# Altium integrated library Xilinx Virtex.IntLib: 240 symbols (part 2 of 35)
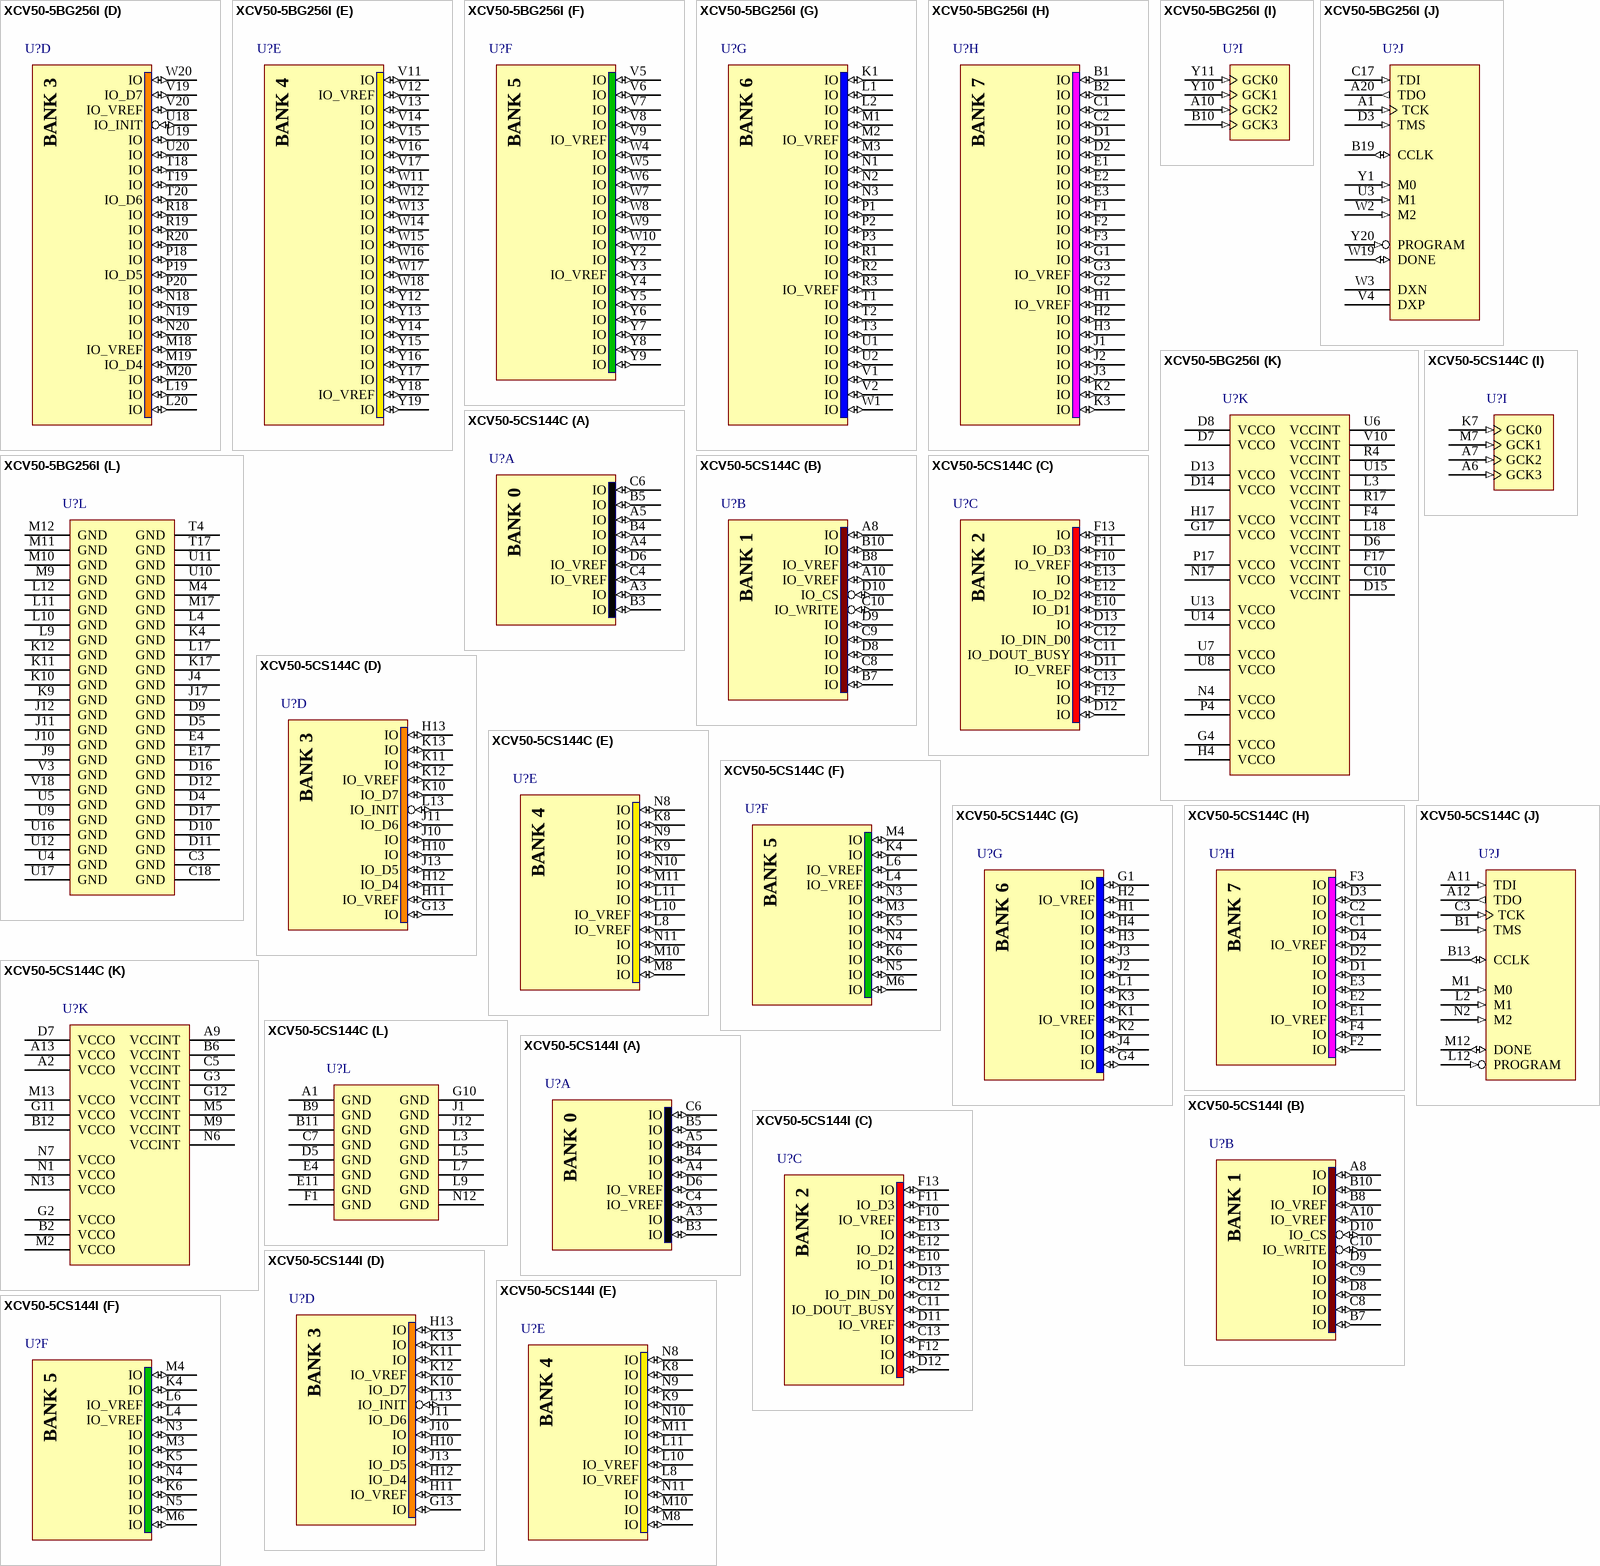
[diagram p213: symbols XCV50-5BG256I to XCV50-5CS144I]

## XCV50-5BG256I
designator U?
Virtex 2.5V FPGA, 256-Ball Thermally Enhanced BGA, Industrial Grade; Note: Solder pads are defined by the copper, i.e. non-soldermask defined (NSMD); 16 extra balls (grounded) at package center; Published: 19-Sep-2001; LatestRevisionDate: 13-Apr-2006; LatestRevisionNote: IPC-7351 Footprint Added.; DatasheetVersion: Dec-2002; PackageVersion: ver1.1, Apr-2001; PackageReference: BG256TE; Publisher: Altium Limited; PackageDescription: 256-Ball Plastic Ball Grid Array (BG256) - Thermally Enhanced; Code_JEDEC: MS-034-BAL-2; ComponentLink1Description: Manufacturer Link; ComponentLink1URL: http://www.xilinx.com/xlnx/xil_prodcat_product.jsp?title=ss_vir; ComponentLink2Description: Datasheet; ComponentLink2URL: http://direct.xilinx.com/bvdocs/publications/ds003.pdf
footprint BG256TE (BGA, 272-Leads, Body 27x27mm, Pitch 1.27mm)
3D model XCV50-BG256TE (256-Ball Plastic Ball Grid Array (BG256) - Thermally Enhanced)
signal-integrity model XCV50_BG256 (Virtex)
part A pins: A2 IO (io), A3 IO (io), A4 IO (io), A5 IO (io), A6 IO (io), A7 IO (io), A8 IO_VREF (io), A9 IO (io), B3 IO (io), B4 IO_VREF (io), B5 IO (io), B6 IO (io), B7 IO (io), B8 IO (io), B9 IO (io), C4 IO (io), C5 IO (io), C6 IO (io), C7 IO (io), C8 IO (io), C9 IO (io)
part B pins: A11 IO (io), A12 IO (io), A13 IO (io), A14 IO (io), A15 IO (io), A16 IO (io), A17 IO_VREF (io), A18 IO (io), A19 IO_WRITE (io), B11 IO (io), B12 IO_VREF (io), B13 IO (io), B14 IO (io), B15 IO (io), B16 IO (io), B17 IO (io), B18 IO_CS (io), C11 IO (io), C12 IO (io), C13 IO (io), C14 IO (io), C15 IO (io), C16 IO (io)
part C pins: B20 IO (io), C19 IO_DIN_D0 (io), C20 IO_VREF (io), D18 IO_DOUT_BUSY (io), D19 IO (io), D20 IO (io), E18 IO (io), E19 IO (io), E20 IO_D1 (io), F18 IO (io), F19 IO (io), F20 IO (io), G18 IO (io), G19 IO_D2 (io), G20 IO (io), H18 IO (io), H19 IO (io), H20 IO (io), J18 IO_VREF (io), J19 IO_D3 (io), J20 IO (io), K18 IO (io), K19 IO (io), K20 IO (io)
part D pins: L19 IO (io), L20 IO (io), M18 IO_VREF (io), M19 IO_D4 (io), M20 IO (io), N18 IO (io), N19 IO (io), N20 IO (io), P18 IO (io), P19 IO_D5 (io), P20 IO (io), R18 IO (io), R19 IO (io), R20 IO (io), T18 IO (io), T19 IO (io), T20 IO_D6 (io), U18 IO_INIT (io), U19 IO (io), U20 IO (io), V19 IO_D7 (io), V20 IO_VREF (io), W20 IO (io)
part E pins: V11 IO (io), V12 IO_VREF (io), V13 IO (io), V14 IO (io), V15 IO (io), V16 IO (io), V17 IO (io), W11 IO (io), W12 IO (io), W13 IO (io), W14 IO (io), W15 IO (io), W16 IO (io), W17 IO (io), W18 IO (io), Y12 IO (io), Y13 IO (io), Y14 IO (io), Y15 IO (io), Y16 IO (io), Y17 IO (io), Y18 IO_VREF (io), Y19 IO (io)
part F pins: V5 IO (io), V6 IO (io), V7 IO (io), V8 IO (io), V9 IO_VREF (io), W4 IO (io), W5 IO (io), W6 IO (io), W7 IO (io), W8 IO (io), W9 IO (io), W10 IO (io), Y2 IO (io), Y3 IO_VREF (io), Y4 IO (io), Y5 IO (io), Y6 IO (io), Y7 IO (io), Y8 IO (io), Y9 IO (io)
part G pins: K1 IO (io), L1 IO (io), L2 IO (io), M1 IO (io), M2 IO_VREF (io), M3 IO (io), N1 IO (io), N2 IO (io), N3 IO (io), P1 IO (io), P2 IO (io), P3 IO (io), R1 IO (io), R2 IO (io), R3 IO_VREF (io), T1 IO (io), T2 IO (io), T3 IO (io), U1 IO (io), U2 IO (io), V1 IO (io), V2 IO (io), W1 IO (io)
part H pins: B1 IO (io), B2 IO (io), C1 IO (io), C2 IO (io), D1 IO (io), D2 IO (io), E1 IO (io), E2 IO (io), E3 IO (io), F1 IO (io), F2 IO (io), F3 IO (io), G1 IO (io), G2 IO (io), G3 IO_VREF (io), H1 IO_VREF (io), H2 IO (io), H3 IO (io), J1 IO (io), J2 IO (io), J3 IO (io), K2 IO (io), K3 IO (io)
part I pins: A10 GCK2 (in), B10 GCK3 (in), Y10 GCK1 (in), Y11 GCK0 (in)
part J pins: A1 TCK (in), A20 TDO (out), B19 CCLK (io), C17 TDI (in), D3 TMS (in), U3 M1 (in), V4 DXP, W2 M2 (in), W3 DXN, W19 DONE (io), Y1 M0 (in), Y20 PROGRAM (in)
part K pins: C10 VCCINT (power), D6 VCCINT (power), D7 VCCO (power), D8 VCCO (power), D13 VCCO (power), D14 VCCO (power), D15 VCCINT (power), F4 VCCINT (power), F17 VCCINT (power), G4 VCCO (power), G17 VCCO (power), H4 VCCO (power), H17 VCCO (power), L3 VCCINT (power), L18 VCCINT (power), N4 VCCO (power), N17 VCCO (power), P4 VCCO (power), P17 VCCO (power), R4 VCCINT (power), R17 VCCINT (power), U6 VCCINT (power), U7 VCCO (power), U8 VCCO (power), U13 VCCO (power), U14 VCCO (power), U15 VCCINT (power), V10 VCCINT (power)
part L pins: C3 GND (power), C18 GND (power), D4 GND (power), D5 GND (power), D9 GND (power), D10 GND (power), D11 GND (power), D12 GND (power), D16 GND (power), D17 GND (power), E4 GND (power), E17 GND (power), J4 GND (power), J9 GND (power), J10 GND (power), J11 GND (power), J12 GND (power), J17 GND (power), K4 GND (power), K9 GND (power), K10 GND (power), K11 GND (power), K12 GND (power), K17 GND (power), L4 GND (power), L9 GND (power), L10 GND (power), L11 GND (power), L12 GND (power), L17 GND (power), M4 GND (power), M9 GND (power), M10 GND (power), M11 GND (power), M12 GND (power), M17 GND (power), T4 GND (power), T17 GND (power), U4 GND (power), U5 GND (power), U9 GND (power), U10 GND (power), U11 GND (power), U12 GND (power), U16 GND (power), U17 GND (power), V3 GND (power), V18 GND (power)
part A text: BANK 0
part B text: BANK 1
part C text: BANK 2
part D text: BANK 3
part E text: BANK 4
part F text: BANK 5
part G text: BANK 6
part H text: BANK 7

## XCV50-5CS144C
designator U?
Virtex 2.5V FPGA, 144-Ball CSBGA, Commercial Grade; Note: Solder pads are defined by the copper, i.e. non-soldermask defined (NSMD); Published: 19-Sep-2001; LatestRevisionDate: 13-Apr-2006; LatestRevisionNote: IPC-7351 Footprint Added.; DatasheetVersion: Dec-2002; PackageVersion: ver1.2.2, Nov-2005; PackageReference: CS144; Publisher: Altium Limited; PackageDescription: 144-Ball Chip Scale Ball Grid Array (CS144); Code_JEDEC: MO-216-BAG-2 (Depopulated); ComponentLink1Description: Manufacturer Link; ComponentLink1URL: http://www.xilinx.com/xlnx/xil_prodcat_product.jsp?title=ss_vir; ComponentLink2Description: Datasheet; ComponentLink2URL: http://direct.xilinx.com/bvdocs/publications/ds003.pdf
footprint CS144 (BGA, 144-Leads, Body 12x12mm, Pitch 0.8mm)
3D model XCV50-CS144 (144-Ball Chip Scale Ball Grid Array (CS144))
signal-integrity model XCV50_CS144 (Virtex)
part A pins: A3 IO (io), A4 IO (io), A5 IO (io), B3 IO (io), B4 IO (io), B5 IO (io), C4 IO_VREF (io), C6 IO (io), D6 IO_VREF (io)
part B pins: A8 IO (io), A10 IO_VREF (io), B7 IO (io), B8 IO_VREF (io), B10 IO (io), C8 IO (io), C9 IO (io), C10 IO_WRITE (io), D8 IO (io), D9 IO (io), D10 IO_CS (io)
part C pins: C11 IO_DOUT_BUSY (io), C12 IO_DIN_D0 (io), C13 IO (io), D11 IO_VREF (io), D12 IO (io), D13 IO (io), E10 IO_D1 (io), E12 IO_D2 (io), E13 IO (io), F10 IO_VREF (io), F11 IO_D3 (io), F12 IO (io), F13 IO (io)
part D pins: G13 IO (io), H10 IO (io), H11 IO_VREF (io), H12 IO_D4 (io), H13 IO (io), J10 IO (io), J11 IO_D6 (io), J13 IO_D5 (io), K10 IO_D7 (io), K11 IO (io), K12 IO_VREF (io), K13 IO (io), L13 IO_INIT (io)
part E pins: K8 IO (io), K9 IO (io), L8 IO_VREF (io), L10 IO_VREF (io), L11 IO (io), M8 IO (io), M10 IO (io), M11 IO (io), N8 IO (io), N9 IO (io), N10 IO (io), N11 IO (io)
part F pins: K4 IO (io), K5 IO (io), K6 IO (io), L4 IO_VREF (io), L6 IO_VREF (io), M3 IO (io), M4 IO (io), M6 IO (io), N3 IO (io), N4 IO (io), N5 IO (io)
part G pins: G1 IO (io), G4 IO (io), H1 IO (io), H2 IO_VREF (io), H3 IO (io), H4 IO (io), J2 IO (io), J3 IO (io), J4 IO (io), K1 IO_VREF (io), K2 IO (io), K3 IO (io), L1 IO (io)
part H pins: C1 IO (io), C2 IO (io), D1 IO (io), D2 IO (io), D3 IO (io), D4 IO_VREF (io), E1 IO_VREF (io), E2 IO (io), E3 IO (io), F2 IO (io), F3 IO (io), F4 IO (io)
part I pins: A6 GCK3 (in), A7 GCK2 (in), K7 GCK0 (in), M7 GCK1 (in)
part J pins: A11 TDI (in), A12 TDO (out), B1 TMS (in), B13 CCLK (io), C3 TCK (in), L2 M1 (in), L12 PROGRAM (in), M1 M0 (in), M12 DONE (io), N2 M2 (in)
part K pins: A2 VCCO (power), A9 VCCINT (power), A13 VCCO (power), B2 VCCO (power), B6 VCCINT (power), B12 VCCO (power), C5 VCCINT (power), D7 VCCO (power), G2 VCCO (power), G3 VCCINT (power), G11 VCCO (power), G12 VCCINT (power), M2 VCCO (power), M5 VCCINT (power), M9 VCCINT (power), M13 VCCO (power), N1 VCCO (power), N6 VCCINT (power), N7 VCCO (power), N13 VCCO (power)
part L pins: A1 GND (power), B9 GND (power), B11 GND (power), C7 GND (power), D5 GND (power), E4 GND (power), E11 GND (power), F1 GND (power), G10 GND (power), J1 GND (power), J12 GND (power), L3 GND (power), L5 GND (power), L7 GND (power), L9 GND (power), N12 GND (power)
part A text: BANK 0
part B text: BANK 1
part C text: BANK 2
part D text: BANK 3
part E text: BANK 4
part F text: BANK 5
part G text: BANK 6
part H text: BANK 7

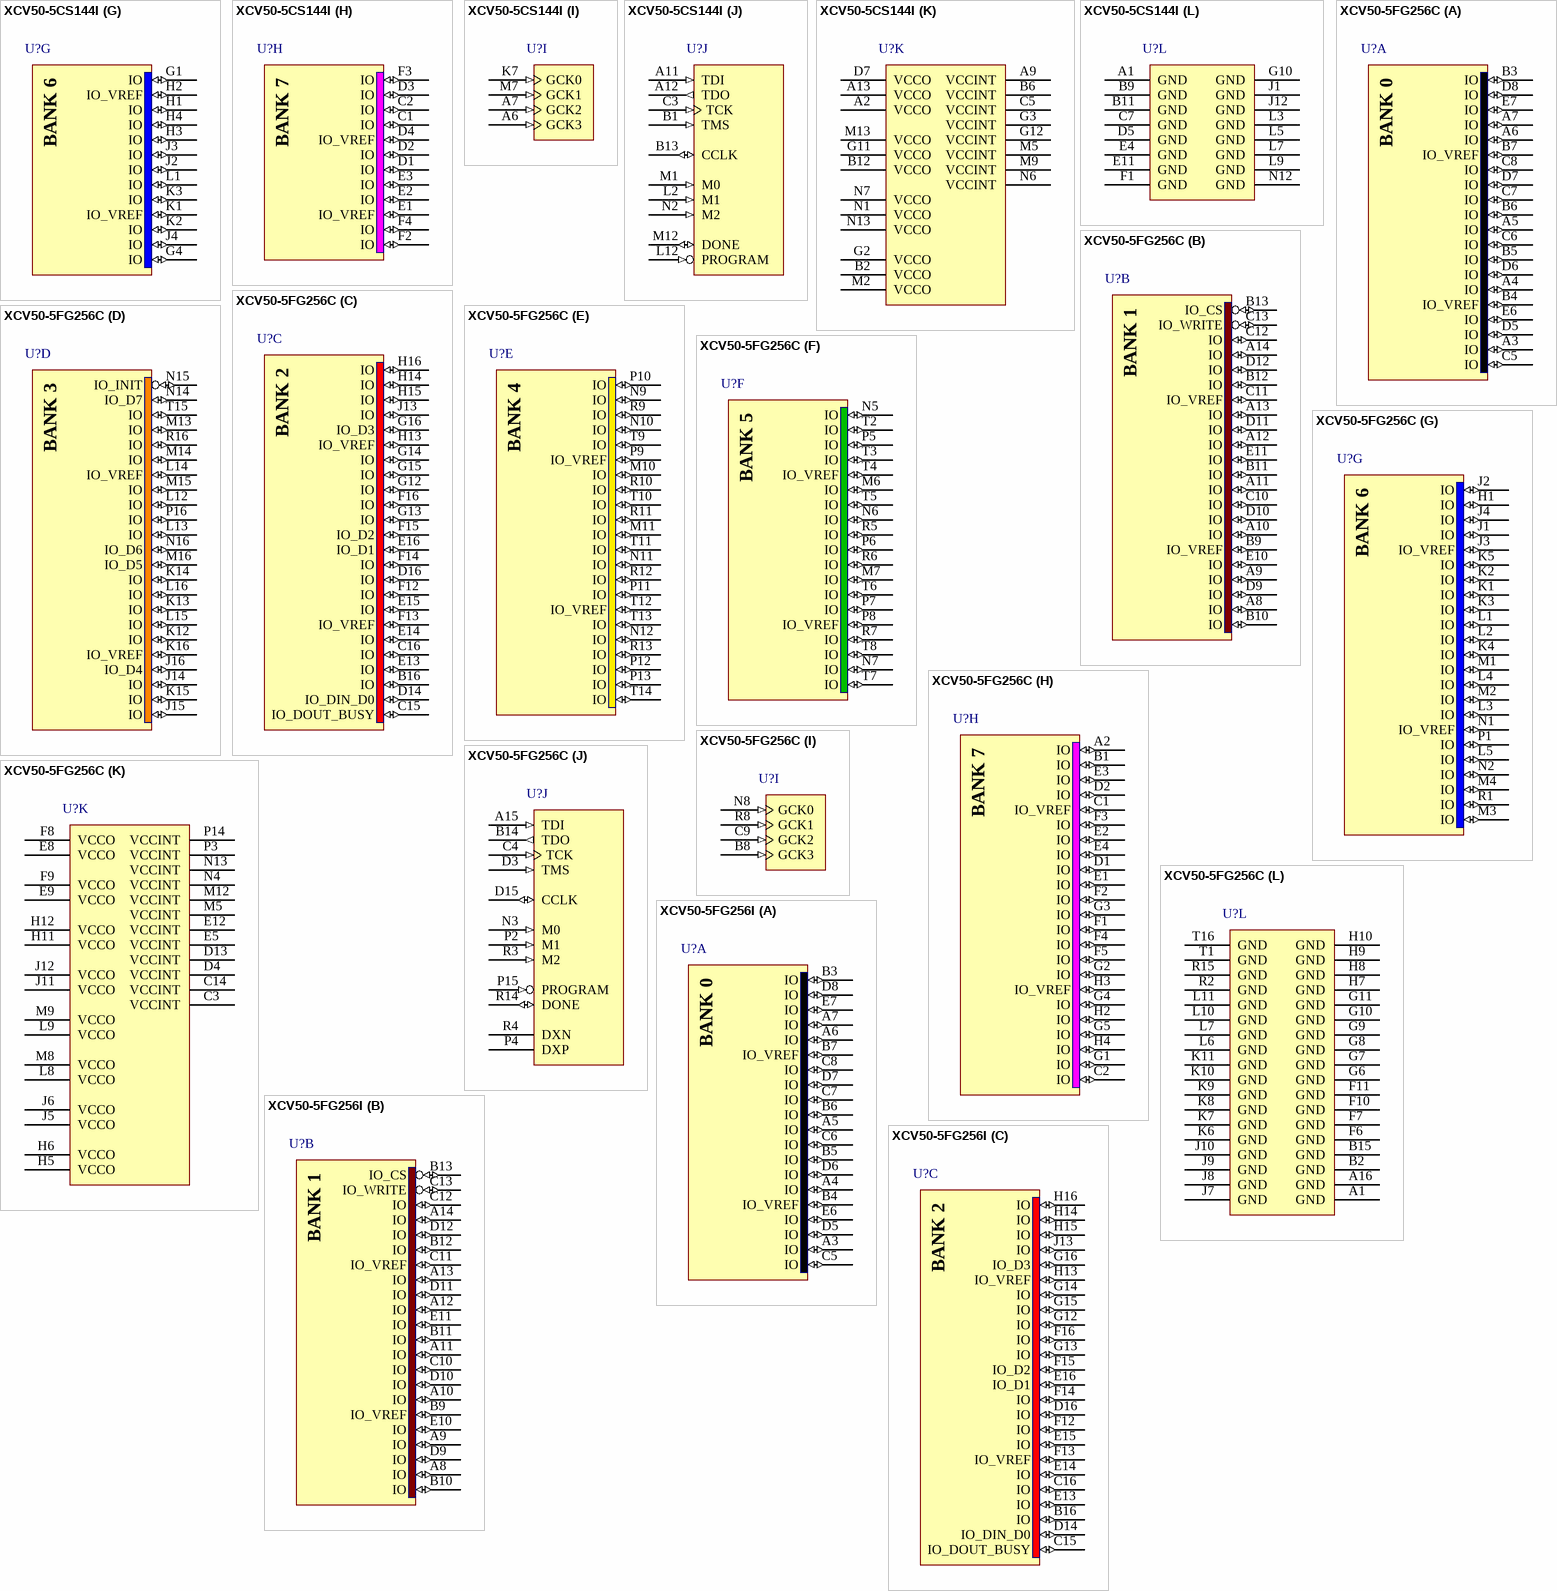
[diagram p7: symbols XCV50-5CS144I to XCV50-5FG256I]

## XCV50-5CS144I
designator U?
Virtex 2.5V FPGA, 144-Ball CSBGA, Industrial Grade; Note: Solder pads are defined by the copper, i.e. non-soldermask defined (NSMD); Published: 19-Sep-2001; LatestRevisionDate: 13-Apr-2006; LatestRevisionNote: IPC-7351 Footprint Added.; DatasheetVersion: Dec-2002; PackageVersion: ver1.2.2, Nov-2005; PackageReference: CS144; Publisher: Altium Limited; PackageDescription: 144-Ball Chip Scale Ball Grid Array (CS144); Code_JEDEC: MO-216-BAG-2 (Depopulated); ComponentLink1Description: Manufacturer Link; ComponentLink1URL: http://www.xilinx.com/xlnx/xil_prodcat_product.jsp?title=ss_vir; ComponentLink2Description: Datasheet; ComponentLink2URL: http://direct.xilinx.com/bvdocs/publications/ds003.pdf
footprint CS144 (BGA, 144-Leads, Body 12x12mm, Pitch 0.8mm)
3D model XCV50-CS144 (144-Ball Chip Scale Ball Grid Array (CS144))
signal-integrity model XCV50_CS144 (Virtex)
part A pins: A3 IO (io), A4 IO (io), A5 IO (io), B3 IO (io), B4 IO (io), B5 IO (io), C4 IO_VREF (io), C6 IO (io), D6 IO_VREF (io)
part B pins: A8 IO (io), A10 IO_VREF (io), B7 IO (io), B8 IO_VREF (io), B10 IO (io), C8 IO (io), C9 IO (io), C10 IO_WRITE (io), D8 IO (io), D9 IO (io), D10 IO_CS (io)
part C pins: C11 IO_DOUT_BUSY (io), C12 IO_DIN_D0 (io), C13 IO (io), D11 IO_VREF (io), D12 IO (io), D13 IO (io), E10 IO_D1 (io), E12 IO_D2 (io), E13 IO (io), F10 IO_VREF (io), F11 IO_D3 (io), F12 IO (io), F13 IO (io)
part D pins: G13 IO (io), H10 IO (io), H11 IO_VREF (io), H12 IO_D4 (io), H13 IO (io), J10 IO (io), J11 IO_D6 (io), J13 IO_D5 (io), K10 IO_D7 (io), K11 IO (io), K12 IO_VREF (io), K13 IO (io), L13 IO_INIT (io)
part E pins: K8 IO (io), K9 IO (io), L8 IO_VREF (io), L10 IO_VREF (io), L11 IO (io), M8 IO (io), M10 IO (io), M11 IO (io), N8 IO (io), N9 IO (io), N10 IO (io), N11 IO (io)
part F pins: K4 IO (io), K5 IO (io), K6 IO (io), L4 IO_VREF (io), L6 IO_VREF (io), M3 IO (io), M4 IO (io), M6 IO (io), N3 IO (io), N4 IO (io), N5 IO (io)
part G pins: G1 IO (io), G4 IO (io), H1 IO (io), H2 IO_VREF (io), H3 IO (io), H4 IO (io), J2 IO (io), J3 IO (io), J4 IO (io), K1 IO_VREF (io), K2 IO (io), K3 IO (io), L1 IO (io)
part H pins: C1 IO (io), C2 IO (io), D1 IO (io), D2 IO (io), D3 IO (io), D4 IO_VREF (io), E1 IO_VREF (io), E2 IO (io), E3 IO (io), F2 IO (io), F3 IO (io), F4 IO (io)
part I pins: A6 GCK3 (in), A7 GCK2 (in), K7 GCK0 (in), M7 GCK1 (in)
part J pins: A11 TDI (in), A12 TDO (out), B1 TMS (in), B13 CCLK (io), C3 TCK (in), L2 M1 (in), L12 PROGRAM (in), M1 M0 (in), M12 DONE (io), N2 M2 (in)
part K pins: A2 VCCO (power), A9 VCCINT (power), A13 VCCO (power), B2 VCCO (power), B6 VCCINT (power), B12 VCCO (power), C5 VCCINT (power), D7 VCCO (power), G2 VCCO (power), G3 VCCINT (power), G11 VCCO (power), G12 VCCINT (power), M2 VCCO (power), M5 VCCINT (power), M9 VCCINT (power), M13 VCCO (power), N1 VCCO (power), N6 VCCINT (power), N7 VCCO (power), N13 VCCO (power)
part L pins: A1 GND (power), B9 GND (power), B11 GND (power), C7 GND (power), D5 GND (power), E4 GND (power), E11 GND (power), F1 GND (power), G10 GND (power), J1 GND (power), J12 GND (power), L3 GND (power), L5 GND (power), L7 GND (power), L9 GND (power), N12 GND (power)
part A text: BANK 0
part B text: BANK 1
part C text: BANK 2
part D text: BANK 3
part E text: BANK 4
part F text: BANK 5
part G text: BANK 6
part H text: BANK 7

## XCV50-5FG256C
designator U?
Virtex 2.5V FPGA, 256-Ball FBGA, Commercial Grade; Note: Solder pads are defined by the copper, i.e. non-soldermask defined (NSMD); Published: 19-Sep-2001; LatestRevisionDate: 13-Apr-2006; LatestRevisionNote: IPC-7351 Footprint Added.; DatasheetVersion: Dec-2002; PackageVersion: ver1.2.1, Apr-2005; PackageReference: FG256; Publisher: Altium Limited; PackageDescription: 256-Ball Fine Pitch Ball Grid Array (FG256); Code_JEDEC: MO-151-AAF-1; Code_IPC: BGA100P16X16-256; ComponentLink1Description: Manufacturer Link; ComponentLink1URL: http://www.xilinx.com/xlnx/xil_prodcat_product.jsp?title=ss_vir; ComponentLink2Description: Datasheet; ComponentLink2URL: http://direct.xilinx.com/bvdocs/publications/ds003.pdf
footprint FG256 (BGA, 256-Leads, Body 17x17mm, Pitch 1mm)
3D model XCV50-FG256 (256-Ball Fine Pitch Ball Grid Array (FG256))
signal-integrity model XCV50_FG256 (Virtex)
part A pins: A3 IO (io), A4 IO (io), A5 IO (io), A6 IO (io), A7 IO (io), B3 IO (io), B4 IO_VREF (io), B5 IO (io), B6 IO (io), B7 IO_VREF (io), C5 IO (io), C6 IO (io), C7 IO (io), C8 IO (io), D5 IO (io), D6 IO (io), D7 IO (io), D8 IO (io), E6 IO (io), E7 IO (io)
part B pins: A8 IO (io), A9 IO (io), A10 IO (io), A11 IO (io), A12 IO (io), A13 IO (io), A14 IO (io), B9 IO_VREF (io), B10 IO (io), B11 IO (io), B12 IO (io), B13 IO_CS (io), C10 IO (io), C11 IO_VREF (io), C12 IO (io), C13 IO_WRITE (io), D9 IO (io), D10 IO (io), D11 IO (io), D12 IO (io), E10 IO (io), E11 IO (io)
part C pins: B16 IO (io), C15 IO_DOUT_BUSY (io), C16 IO (io), D14 IO_DIN_D0 (io), D16 IO (io), E13 IO (io), E14 IO (io), E15 IO (io), E16 IO_D1 (io), F12 IO (io), F13 IO_VREF (io), F14 IO (io), F15 IO_D2 (io), F16 IO (io), G12 IO (io), G13 IO (io), G14 IO (io), G15 IO (io), G16 IO_D3 (io), H13 IO_VREF (io), H14 IO (io), H15 IO (io), H16 IO (io), J13 IO (io)
part D pins: J14 IO (io), J15 IO (io), J16 IO_D4 (io), K12 IO (io), K13 IO (io), K14 IO (io), K15 IO (io), K16 IO_VREF (io), L12 IO (io), L13 IO (io), L14 IO_VREF (io), L15 IO (io), L16 IO (io), M13 IO (io), M14 IO (io), M15 IO (io), M16 IO_D5 (io), N14 IO_D7 (io), N15 IO_INIT (io), N16 IO_D6 (io), P16 IO (io), R16 IO (io), T15 IO (io)
part E pins: M10 IO (io), M11 IO (io), N9 IO (io), N10 IO (io), N11 IO (io), N12 IO (io), P9 IO_VREF (io), P10 IO (io), P11 IO (io), P12 IO (io), P13 IO (io), R9 IO (io), R10 IO (io), R11 IO (io), R12 IO (io), R13 IO (io), T9 IO (io), T10 IO (io), T11 IO (io), T12 IO_VREF (io), T13 IO (io), T14 IO (io)
part F pins: M6 IO (io), M7 IO (io), N5 IO (io), N6 IO (io), N7 IO (io), P5 IO (io), P6 IO (io), P7 IO (io), P8 IO_VREF (io), R5 IO (io), R6 IO (io), R7 IO (io), T2 IO (io), T3 IO (io), T4 IO_VREF (io), T5 IO (io), T6 IO (io), T7 IO (io), T8 IO (io)
part G pins: H1 IO (io), J1 IO (io), J2 IO (io), J3 IO_VREF (io), J4 IO (io), K1 IO (io), K2 IO (io), K3 IO (io), K4 IO (io), K5 IO (io), L1 IO (io), L2 IO (io), L3 IO (io), L4 IO (io), L5 IO (io), M1 IO (io), M2 IO (io), M3 IO (io), M4 IO (io), N1 IO_VREF (io), N2 IO (io), P1 IO (io), R1 IO (io)
part H pins: A2 IO (io), B1 IO (io), C1 IO_VREF (io), C2 IO (io), D1 IO (io), D2 IO (io), E1 IO (io), E2 IO (io), E3 IO (io), E4 IO (io), F1 IO (io), F2 IO (io), F3 IO (io), F4 IO (io), F5 IO (io), G1 IO (io), G2 IO (io), G3 IO (io), G4 IO (io), G5 IO (io), H2 IO (io), H3 IO_VREF (io), H4 IO (io)
part I pins: B8 GCK3 (in), C9 GCK2 (in), N8 GCK0 (in), R8 GCK1 (in)
part J pins: A15 TDI (in), B14 TDO (out), C4 TCK (in), D3 TMS (in), D15 CCLK (io), N3 M0 (in), P2 M1 (in), P4 DXP, P15 PROGRAM (in), R3 M2 (in), R4 DXN, R14 DONE (io)
part K pins: C3 VCCINT (power), C14 VCCINT (power), D4 VCCINT (power), D13 VCCINT (power), E5 VCCINT (power), E8 VCCO (power), E9 VCCO (power), E12 VCCINT (power), F8 VCCO (power), F9 VCCO (power), H5 VCCO (power), H6 VCCO (power), H11 VCCO (power), H12 VCCO (power), J5 VCCO (power), J6 VCCO (power), J11 VCCO (power), J12 VCCO (power), L8 VCCO (power), L9 VCCO (power), M5 VCCINT (power), M8 VCCO (power), M9 VCCO (power), M12 VCCINT (power), N4 VCCINT (power), N13 VCCINT (power), P3 VCCINT (power), P14 VCCINT (power)
part L pins: A1 GND (power), A16 GND (power), B2 GND (power), B15 GND (power), F6 GND (power), F7 GND (power), F10 GND (power), F11 GND (power), G6 GND (power), G7 GND (power), G8 GND (power), G9 GND (power), G10 GND (power), G11 GND (power), H7 GND (power), H8 GND (power), H9 GND (power), H10 GND (power), J7 GND (power), J8 GND (power), J9 GND (power), J10 GND (power), K6 GND (power), K7 GND (power), K8 GND (power), K9 GND (power), K10 GND (power), K11 GND (power), L6 GND (power), L7 GND (power), L10 GND (power), L11 GND (power), R2 GND (power), R15 GND (power), T1 GND (power), T16 GND (power)
part A text: BANK 0
part B text: BANK 1
part C text: BANK 2
part D text: BANK 3
part E text: BANK 4
part F text: BANK 5
part G text: BANK 6
part H text: BANK 7

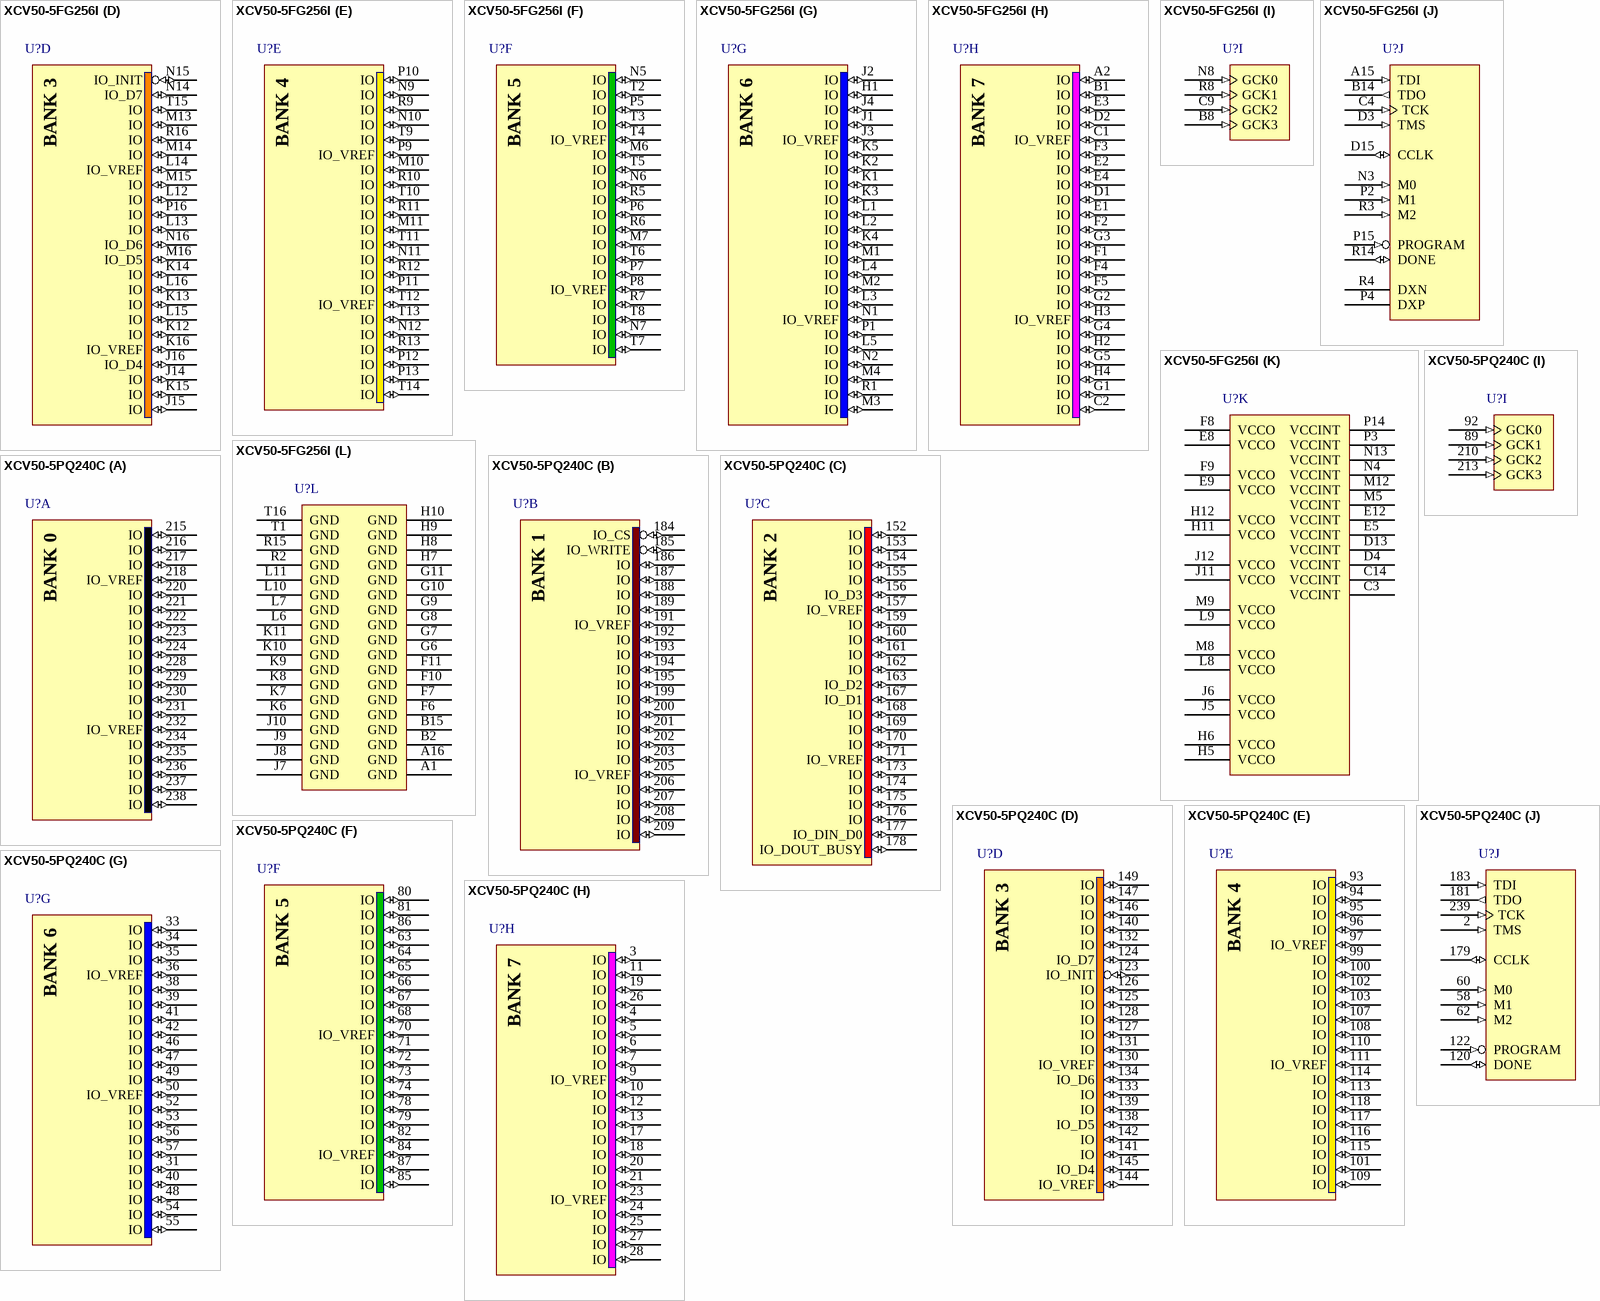
[diagram p8: symbols XCV50-5FG256I to XCV50-5PQ240C]

## XCV50-5FG256I
designator U?
Virtex 2.5V FPGA, 256-Ball FBGA, Industrial Grade; Note: Solder pads are defined by the copper, i.e. non-soldermask defined (NSMD); Published: 19-Sep-2001; LatestRevisionDate: 13-Apr-2006; LatestRevisionNote: IPC-7351 Footprint Added.; DatasheetVersion: Dec-2002; PackageVersion: ver1.2.1, Apr-2005; PackageReference: FG256; Publisher: Altium Limited; PackageDescription: 256-Ball Fine Pitch Ball Grid Array (FG256); Code_JEDEC: MO-151-AAF-1; Code_IPC: BGA100P16X16-256; ComponentLink1Description: Manufacturer Link; ComponentLink1URL: http://www.xilinx.com/xlnx/xil_prodcat_product.jsp?title=ss_vir; ComponentLink2Description: Datasheet; ComponentLink2URL: http://direct.xilinx.com/bvdocs/publications/ds003.pdf
footprint FG256 (BGA, 256-Leads, Body 17x17mm, Pitch 1mm)
3D model XCV50-FG256 (256-Ball Fine Pitch Ball Grid Array (FG256))
signal-integrity model XCV50_FG256 (Virtex)
part A pins: A3 IO (io), A4 IO (io), A5 IO (io), A6 IO (io), A7 IO (io), B3 IO (io), B4 IO_VREF (io), B5 IO (io), B6 IO (io), B7 IO_VREF (io), C5 IO (io), C6 IO (io), C7 IO (io), C8 IO (io), D5 IO (io), D6 IO (io), D7 IO (io), D8 IO (io), E6 IO (io), E7 IO (io)
part B pins: A8 IO (io), A9 IO (io), A10 IO (io), A11 IO (io), A12 IO (io), A13 IO (io), A14 IO (io), B9 IO_VREF (io), B10 IO (io), B11 IO (io), B12 IO (io), B13 IO_CS (io), C10 IO (io), C11 IO_VREF (io), C12 IO (io), C13 IO_WRITE (io), D9 IO (io), D10 IO (io), D11 IO (io), D12 IO (io), E10 IO (io), E11 IO (io)
part C pins: B16 IO (io), C15 IO_DOUT_BUSY (io), C16 IO (io), D14 IO_DIN_D0 (io), D16 IO (io), E13 IO (io), E14 IO (io), E15 IO (io), E16 IO_D1 (io), F12 IO (io), F13 IO_VREF (io), F14 IO (io), F15 IO_D2 (io), F16 IO (io), G12 IO (io), G13 IO (io), G14 IO (io), G15 IO (io), G16 IO_D3 (io), H13 IO_VREF (io), H14 IO (io), H15 IO (io), H16 IO (io), J13 IO (io)
part D pins: J14 IO (io), J15 IO (io), J16 IO_D4 (io), K12 IO (io), K13 IO (io), K14 IO (io), K15 IO (io), K16 IO_VREF (io), L12 IO (io), L13 IO (io), L14 IO_VREF (io), L15 IO (io), L16 IO (io), M13 IO (io), M14 IO (io), M15 IO (io), M16 IO_D5 (io), N14 IO_D7 (io), N15 IO_INIT (io), N16 IO_D6 (io), P16 IO (io), R16 IO (io), T15 IO (io)
part E pins: M10 IO (io), M11 IO (io), N9 IO (io), N10 IO (io), N11 IO (io), N12 IO (io), P9 IO_VREF (io), P10 IO (io), P11 IO (io), P12 IO (io), P13 IO (io), R9 IO (io), R10 IO (io), R11 IO (io), R12 IO (io), R13 IO (io), T9 IO (io), T10 IO (io), T11 IO (io), T12 IO_VREF (io), T13 IO (io), T14 IO (io)
part F pins: M6 IO (io), M7 IO (io), N5 IO (io), N6 IO (io), N7 IO (io), P5 IO (io), P6 IO (io), P7 IO (io), P8 IO_VREF (io), R5 IO (io), R6 IO (io), R7 IO (io), T2 IO (io), T3 IO (io), T4 IO_VREF (io), T5 IO (io), T6 IO (io), T7 IO (io), T8 IO (io)
part G pins: H1 IO (io), J1 IO (io), J2 IO (io), J3 IO_VREF (io), J4 IO (io), K1 IO (io), K2 IO (io), K3 IO (io), K4 IO (io), K5 IO (io), L1 IO (io), L2 IO (io), L3 IO (io), L4 IO (io), L5 IO (io), M1 IO (io), M2 IO (io), M3 IO (io), M4 IO (io), N1 IO_VREF (io), N2 IO (io), P1 IO (io), R1 IO (io)
part H pins: A2 IO (io), B1 IO (io), C1 IO_VREF (io), C2 IO (io), D1 IO (io), D2 IO (io), E1 IO (io), E2 IO (io), E3 IO (io), E4 IO (io), F1 IO (io), F2 IO (io), F3 IO (io), F4 IO (io), F5 IO (io), G1 IO (io), G2 IO (io), G3 IO (io), G4 IO (io), G5 IO (io), H2 IO (io), H3 IO_VREF (io), H4 IO (io)
part I pins: B8 GCK3 (in), C9 GCK2 (in), N8 GCK0 (in), R8 GCK1 (in)
part J pins: A15 TDI (in), B14 TDO (out), C4 TCK (in), D3 TMS (in), D15 CCLK (io), N3 M0 (in), P2 M1 (in), P4 DXP, P15 PROGRAM (in), R3 M2 (in), R4 DXN, R14 DONE (io)
part K pins: C3 VCCINT (power), C14 VCCINT (power), D4 VCCINT (power), D13 VCCINT (power), E5 VCCINT (power), E8 VCCO (power), E9 VCCO (power), E12 VCCINT (power), F8 VCCO (power), F9 VCCO (power), H5 VCCO (power), H6 VCCO (power), H11 VCCO (power), H12 VCCO (power), J5 VCCO (power), J6 VCCO (power), J11 VCCO (power), J12 VCCO (power), L8 VCCO (power), L9 VCCO (power), M5 VCCINT (power), M8 VCCO (power), M9 VCCO (power), M12 VCCINT (power), N4 VCCINT (power), N13 VCCINT (power), P3 VCCINT (power), P14 VCCINT (power)
part L pins: A1 GND (power), A16 GND (power), B2 GND (power), B15 GND (power), F6 GND (power), F7 GND (power), F10 GND (power), F11 GND (power), G6 GND (power), G7 GND (power), G8 GND (power), G9 GND (power), G10 GND (power), G11 GND (power), H7 GND (power), H8 GND (power), H9 GND (power), H10 GND (power), J7 GND (power), J8 GND (power), J9 GND (power), J10 GND (power), K6 GND (power), K7 GND (power), K8 GND (power), K9 GND (power), K10 GND (power), K11 GND (power), L6 GND (power), L7 GND (power), L10 GND (power), L11 GND (power), R2 GND (power), R15 GND (power), T1 GND (power), T16 GND (power)
part A text: BANK 0
part B text: BANK 1
part C text: BANK 2
part D text: BANK 3
part E text: BANK 4
part F text: BANK 5
part G text: BANK 6
part H text: BANK 7

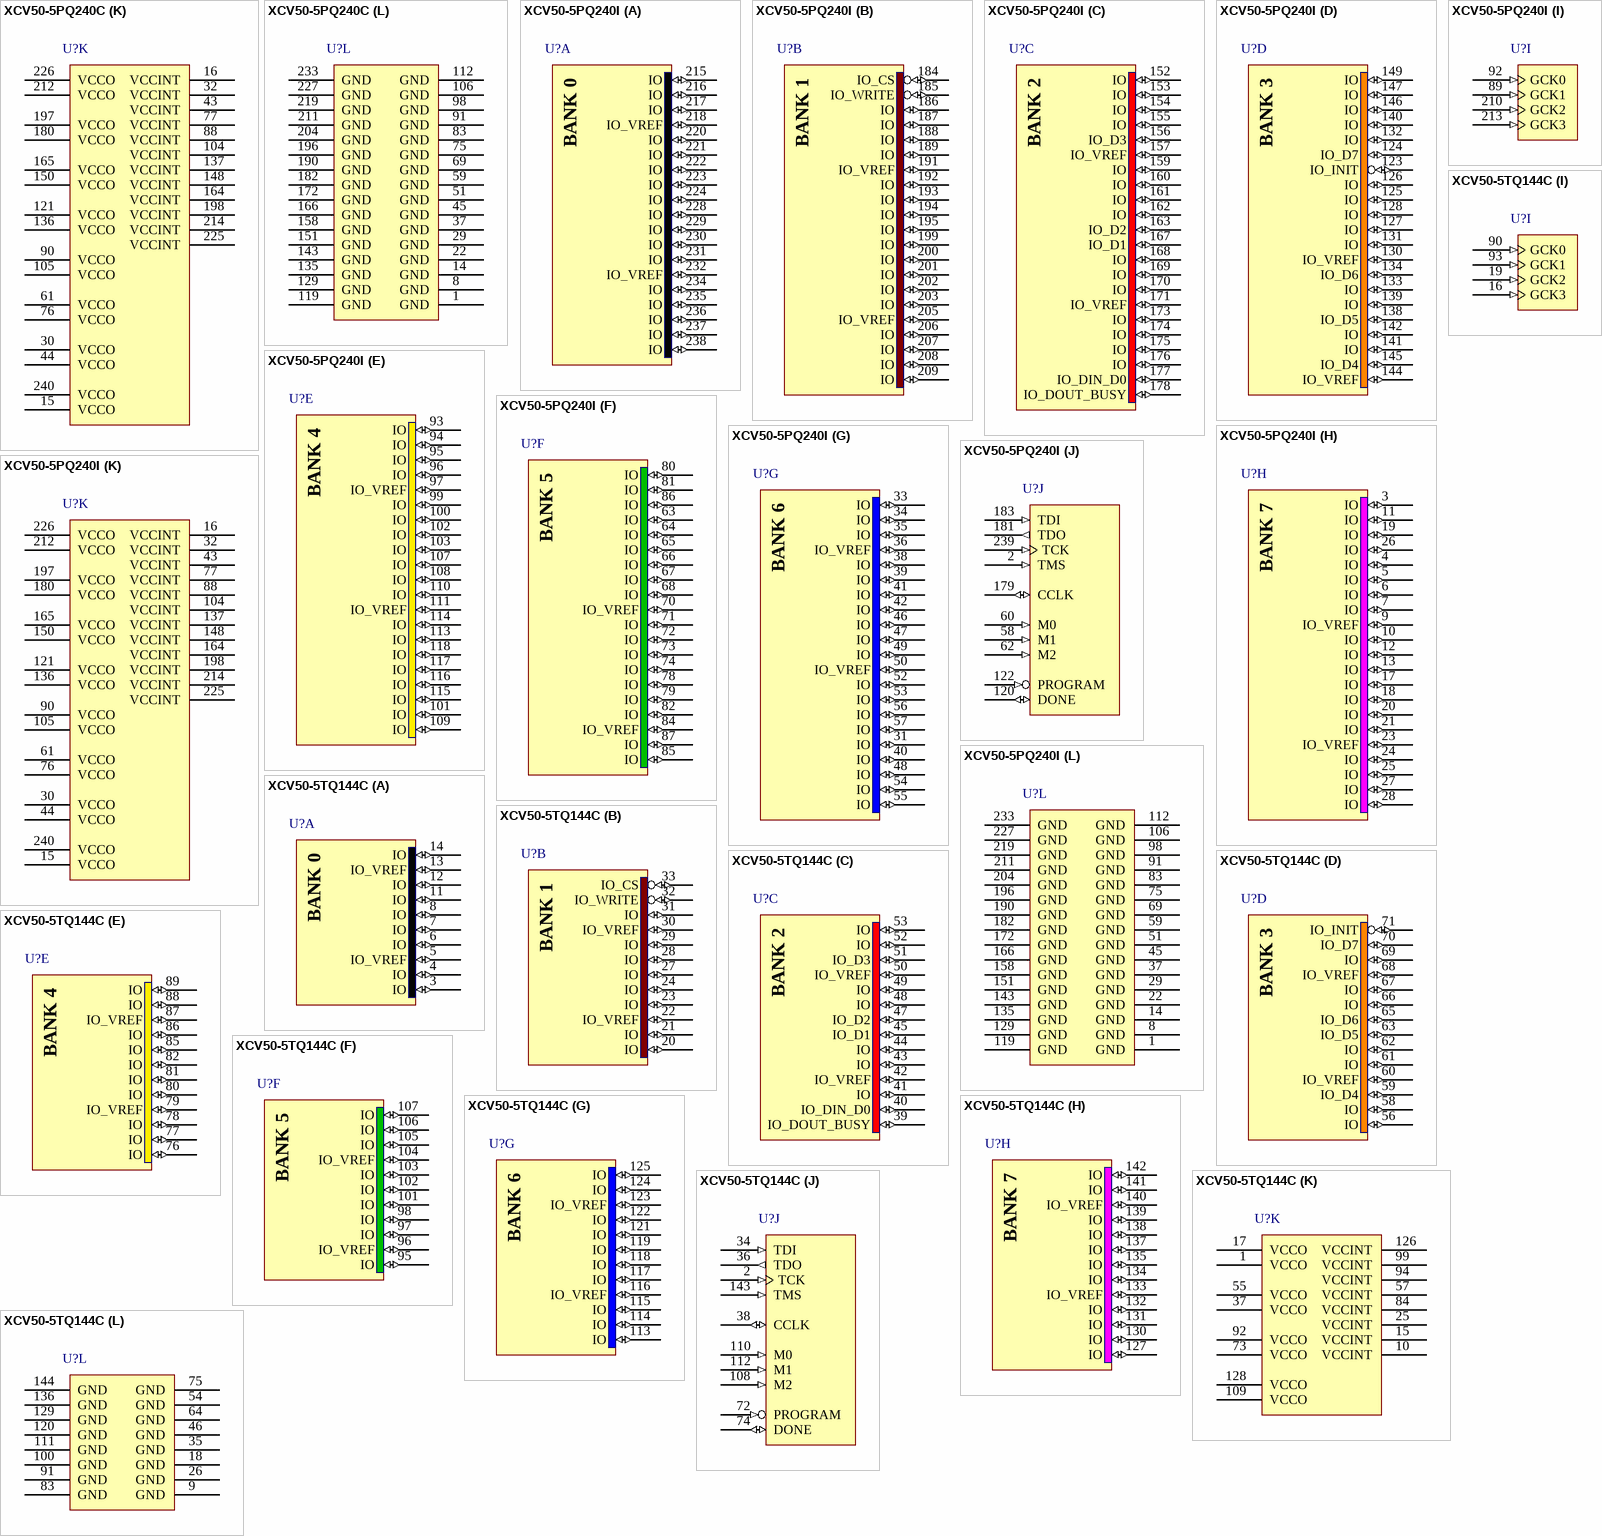
[diagram p9: symbols XCV50-5PQ240C to XCV50-5TQ144C]

## XCV50-5PQ240C
designator U?
Virtex 2.5V FPGA, 240-Pin PQFP, Commercial Grade; Published: 19-Sep-2001; LatestRevisionDate: 13-Apr-2006; LatestRevisionNote: IPC-7351 Footprint Added.; DatasheetVersion: Dec-2002; PackageVersion: ver1.2, Jun-2004; PackageReference: PQ240; Publisher: Altium Limited; PackageDescription: 240-Pin Plastic Quad Flat Pack (PQ240); Code_JEDEC: MO-143-GA; ComponentLink1Description: Manufacturer Link; ComponentLink1URL: http://www.xilinx.com/xlnx/xil_prodcat_product.jsp?title=ss_vir; ComponentLink2Description: Datasheet; ComponentLink2URL: http://direct.xilinx.com/bvdocs/publications/ds003.pdf
footprint PQ240_N (Shrink QFP, 240-Leads, Body 32x32mm, Pitch 0.5mm, IPC Medium Density)
footprint PQ240_L (Shrink QFP, 240-Leads, Body 32x32mm, Pitch 0.5mm, IPC High Density)
footprint PQ240_M (Shrink QFP, 240-Leads, Body 32x32mm, Pitch 0.5mm, IPC Low Density)
3D model XCV50-PQ240 (240-Pin Plastic Quad Flat Pack (PQ240))
signal-integrity model XCV50_PQ240 (Virtex)
part A pins: 215 IO (io), 216 IO (io), 217 IO (io), 218 IO_VREF (io), 220 IO (io), 221 IO (io), 222 IO (io), 223 IO (io), 224 IO (io), 228 IO (io), 229 IO (io), 230 IO (io), 231 IO (io), 232 IO_VREF (io), 234 IO (io), 235 IO (io), 236 IO (io), 237 IO (io), 238 IO (io)
part B pins: 184 IO_CS (io), 185 IO_WRITE (io), 186 IO (io), 187 IO (io), 188 IO (io), 189 IO (io), 191 IO_VREF (io), 192 IO (io), 193 IO (io), 194 IO (io), 195 IO (io), 199 IO (io), 200 IO (io), 201 IO (io), 202 IO (io), 203 IO (io), 205 IO_VREF (io), 206 IO (io), 207 IO (io), 208 IO (io), 209 IO (io)
part C pins: 152 IO (io), 153 IO (io), 154 IO (io), 155 IO (io), 156 IO_D3 (io), 157 IO_VREF (io), 159 IO (io), 160 IO (io), 161 IO (io), 162 IO (io), 163 IO_D2 (io), 167 IO_D1 (io), 168 IO (io), 169 IO (io), 170 IO (io), 171 IO_VREF (io), 173 IO (io), 174 IO (io), 175 IO (io), 176 IO (io), 177 IO_DIN_D0 (io), 178 IO_DOUT_BUSY (io)
part D pins: 123 IO_INIT (io), 124 IO_D7 (io), 125 IO (io), 126 IO (io), 127 IO (io), 128 IO (io), 130 IO_VREF (io), 131 IO (io), 132 IO (io), 133 IO (io), 134 IO_D6 (io), 138 IO_D5 (io), 139 IO (io), 140 IO (io), 141 IO (io), 142 IO (io), 144 IO_VREF (io), 145 IO_D4 (io), 146 IO (io), 147 IO (io), 149 IO (io)
part E pins: 93 IO (io), 94 IO (io), 95 IO (io), 96 IO (io), 97 IO_VREF (io), 99 IO (io), 100 IO (io), 101 IO (io), 102 IO (io), 103 IO (io), 107 IO (io), 108 IO (io), 109 IO (io), 110 IO (io), 111 IO_VREF (io), 113 IO (io), 114 IO (io), 115 IO (io), 116 IO (io), 117 IO (io), 118 IO (io)
part F pins: 63 IO (io), 64 IO (io), 65 IO (io), 66 IO (io), 67 IO (io), 68 IO (io), 70 IO_VREF (io), 71 IO (io), 72 IO (io), 73 IO (io), 74 IO (io), 78 IO (io), 79 IO (io), 80 IO (io), 81 IO (io), 82 IO (io), 84 IO_VREF (io), 85 IO (io), 86 IO (io), 87 IO (io)
part G pins: 31 IO (io), 33 IO (io), 34 IO (io), 35 IO (io), 36 IO_VREF (io), 38 IO (io), 39 IO (io), 40 IO (io), 41 IO (io), 42 IO (io), 46 IO (io), 47 IO (io), 48 IO (io), 49 IO (io), 50 IO_VREF (io), 52 IO (io), 53 IO (io), 54 IO (io), 55 IO (io), 56 IO (io), 57 IO (io)
part H pins: 3 IO (io), 4 IO (io), 5 IO (io), 6 IO (io), 7 IO (io), 9 IO_VREF (io), 10 IO (io), 11 IO (io), 12 IO (io), 13 IO (io), 17 IO (io), 18 IO (io), 19 IO (io), 20 IO (io), 21 IO (io), 23 IO_VREF (io), 24 IO (io), 25 IO (io), 26 IO (io), 27 IO (io), 28 IO (io)
part I pins: 89 GCK1 (in), 92 GCK0 (in), 210 GCK2 (in), 213 GCK3 (in)
part J pins: 2 TMS (in), 58 M1 (in), 60 M0 (in), 62 M2 (in), 120 DONE (io), 122 PROGRAM (in), 179 CCLK (io), 181 TDO (out), 183 TDI (in), 239 TCK (in)
part K pins: 15 VCCO (power), 16 VCCINT (power), 30 VCCO (power), 32 VCCINT (power), 43 VCCINT (power), 44 VCCO (power), 61 VCCO (power), 76 VCCO (power), 77 VCCINT (power), 88 VCCINT (power), 90 VCCO (power), 104 VCCINT (power), 105 VCCO (power), 121 VCCO (power), 136 VCCO (power), 137 VCCINT (power), 148 VCCINT (power), 150 VCCO (power), 164 VCCINT (power), 165 VCCO (power), 180 VCCO (power), 197 VCCO (power), 198 VCCINT (power), 212 VCCO (power), 214 VCCINT (power), 225 VCCINT (power), 226 VCCO (power), 240 VCCO (power)
part L pins: 1 GND (power), 8 GND (power), 14 GND (power), 22 GND (power), 29 GND (power), 37 GND (power), 45 GND (power), 51 GND (power), 59 GND (power), 69 GND (power), 75 GND (power), 83 GND (power), 91 GND (power), 98 GND (power), 106 GND (power), 112 GND (power), 119 GND (power), 129 GND (power), 135 GND (power), 143 GND (power), 151 GND (power), 158 GND (power), 166 GND (power), 172 GND (power), 182 GND (power), 190 GND (power), 196 GND (power), 204 GND (power), 211 GND (power), 219 GND (power), 227 GND (power), 233 GND (power)
part A text: BANK 0
part B text: BANK 1
part C text: BANK 2
part D text: BANK 3
part E text: BANK 4
part F text: BANK 5
part G text: BANK 6
part H text: BANK 7

## XCV50-5PQ240I
designator U?
Virtex 2.5V FPGA, 240-Pin PQFP, Industrial Grade; Published: 19-Sep-2001; LatestRevisionDate: 13-Apr-2006; LatestRevisionNote: IPC-7351 Footprint Added.; DatasheetVersion: Dec-2002; PackageVersion: ver1.2, Jun-2004; PackageReference: PQ240; Publisher: Altium Limited; PackageDescription: 240-Pin Plastic Quad Flat Pack (PQ240); Code_JEDEC: MO-143-GA; ComponentLink1Description: Manufacturer Link; ComponentLink1URL: http://www.xilinx.com/xlnx/xil_prodcat_product.jsp?title=ss_vir; ComponentLink2Description: Datasheet; ComponentLink2URL: http://direct.xilinx.com/bvdocs/publications/ds003.pdf
footprint PQ240_N (Shrink QFP, 240-Leads, Body 32x32mm, Pitch 0.5mm, IPC Medium Density)
footprint PQ240_L (Shrink QFP, 240-Leads, Body 32x32mm, Pitch 0.5mm, IPC High Density)
footprint PQ240_M (Shrink QFP, 240-Leads, Body 32x32mm, Pitch 0.5mm, IPC Low Density)
3D model XCV50-PQ240 (240-Pin Plastic Quad Flat Pack (PQ240))
signal-integrity model XCV50_PQ240 (Virtex)
part A pins: 215 IO (io), 216 IO (io), 217 IO (io), 218 IO_VREF (io), 220 IO (io), 221 IO (io), 222 IO (io), 223 IO (io), 224 IO (io), 228 IO (io), 229 IO (io), 230 IO (io), 231 IO (io), 232 IO_VREF (io), 234 IO (io), 235 IO (io), 236 IO (io), 237 IO (io), 238 IO (io)
part B pins: 184 IO_CS (io), 185 IO_WRITE (io), 186 IO (io), 187 IO (io), 188 IO (io), 189 IO (io), 191 IO_VREF (io), 192 IO (io), 193 IO (io), 194 IO (io), 195 IO (io), 199 IO (io), 200 IO (io), 201 IO (io), 202 IO (io), 203 IO (io), 205 IO_VREF (io), 206 IO (io), 207 IO (io), 208 IO (io), 209 IO (io)
part C pins: 152 IO (io), 153 IO (io), 154 IO (io), 155 IO (io), 156 IO_D3 (io), 157 IO_VREF (io), 159 IO (io), 160 IO (io), 161 IO (io), 162 IO (io), 163 IO_D2 (io), 167 IO_D1 (io), 168 IO (io), 169 IO (io), 170 IO (io), 171 IO_VREF (io), 173 IO (io), 174 IO (io), 175 IO (io), 176 IO (io), 177 IO_DIN_D0 (io), 178 IO_DOUT_BUSY (io)
part D pins: 123 IO_INIT (io), 124 IO_D7 (io), 125 IO (io), 126 IO (io), 127 IO (io), 128 IO (io), 130 IO_VREF (io), 131 IO (io), 132 IO (io), 133 IO (io), 134 IO_D6 (io), 138 IO_D5 (io), 139 IO (io), 140 IO (io), 141 IO (io), 142 IO (io), 144 IO_VREF (io), 145 IO_D4 (io), 146 IO (io), 147 IO (io), 149 IO (io)
part E pins: 93 IO (io), 94 IO (io), 95 IO (io), 96 IO (io), 97 IO_VREF (io), 99 IO (io), 100 IO (io), 101 IO (io), 102 IO (io), 103 IO (io), 107 IO (io), 108 IO (io), 109 IO (io), 110 IO (io), 111 IO_VREF (io), 113 IO (io), 114 IO (io), 115 IO (io), 116 IO (io), 117 IO (io), 118 IO (io)
part F pins: 63 IO (io), 64 IO (io), 65 IO (io), 66 IO (io), 67 IO (io), 68 IO (io), 70 IO_VREF (io), 71 IO (io), 72 IO (io), 73 IO (io), 74 IO (io), 78 IO (io), 79 IO (io), 80 IO (io), 81 IO (io), 82 IO (io), 84 IO_VREF (io), 85 IO (io), 86 IO (io), 87 IO (io)
part G pins: 31 IO (io), 33 IO (io), 34 IO (io), 35 IO (io), 36 IO_VREF (io), 38 IO (io), 39 IO (io), 40 IO (io), 41 IO (io), 42 IO (io), 46 IO (io), 47 IO (io), 48 IO (io), 49 IO (io), 50 IO_VREF (io), 52 IO (io), 53 IO (io), 54 IO (io), 55 IO (io), 56 IO (io), 57 IO (io)
part H pins: 3 IO (io), 4 IO (io), 5 IO (io), 6 IO (io), 7 IO (io), 9 IO_VREF (io), 10 IO (io), 11 IO (io), 12 IO (io), 13 IO (io), 17 IO (io), 18 IO (io), 19 IO (io), 20 IO (io), 21 IO (io), 23 IO_VREF (io), 24 IO (io), 25 IO (io), 26 IO (io), 27 IO (io), 28 IO (io)
part I pins: 89 GCK1 (in), 92 GCK0 (in), 210 GCK2 (in), 213 GCK3 (in)
part J pins: 2 TMS (in), 58 M1 (in), 60 M0 (in), 62 M2 (in), 120 DONE (io), 122 PROGRAM (in), 179 CCLK (io), 181 TDO (out), 183 TDI (in), 239 TCK (in)
part K pins: 15 VCCO (power), 16 VCCINT (power), 30 VCCO (power), 32 VCCINT (power), 43 VCCINT (power), 44 VCCO (power), 61 VCCO (power), 76 VCCO (power), 77 VCCINT (power), 88 VCCINT (power), 90 VCCO (power), 104 VCCINT (power), 105 VCCO (power), 121 VCCO (power), 136 VCCO (power), 137 VCCINT (power), 148 VCCINT (power), 150 VCCO (power), 164 VCCINT (power), 165 VCCO (power), 180 VCCO (power), 197 VCCO (power), 198 VCCINT (power), 212 VCCO (power), 214 VCCINT (power), 225 VCCINT (power), 226 VCCO (power), 240 VCCO (power)
part L pins: 1 GND (power), 8 GND (power), 14 GND (power), 22 GND (power), 29 GND (power), 37 GND (power), 45 GND (power), 51 GND (power), 59 GND (power), 69 GND (power), 75 GND (power), 83 GND (power), 91 GND (power), 98 GND (power), 106 GND (power), 112 GND (power), 119 GND (power), 129 GND (power), 135 GND (power), 143 GND (power), 151 GND (power), 158 GND (power), 166 GND (power), 172 GND (power), 182 GND (power), 190 GND (power), 196 GND (power), 204 GND (power), 211 GND (power), 219 GND (power), 227 GND (power), 233 GND (power)
part A text: BANK 0
part B text: BANK 1
part C text: BANK 2
part D text: BANK 3
part E text: BANK 4
part F text: BANK 5
part G text: BANK 6
part H text: BANK 7

## XCV50-5TQ144C
designator U?
Virtex 2.5V FPGA, 144-Pin TQFP, Commercial Grade; Published: 19-Sep-2001; LatestRevisionDate: 13-Apr-2006; LatestRevisionNote: IPC-7351 Footprint Added.; DatasheetVersion: Dec-2002; PackageVersion: ver1.2, Jun-2004; PackageReference: TQ144; Publisher: Altium Limited; PackageDescription: 144-Pin Thin Quad Flat Pack (TQ144); Code_JEDEC: MS-026-BFB; ComponentLink1Description: Manufacturer Link; ComponentLink1URL: http://www.xilinx.com/xlnx/xil_prodcat_product.jsp?title=ss_vir; ComponentLink2Description: Datasheet; ComponentLink2URL: http://direct.xilinx.com/bvdocs/publications/ds003.pdf
footprint TQ144_N (Thin QFP, 144-Leads, Body 20x20mm, Pitch 0.5mm, IPC Medium Density)
footprint TQ144_L (Thin QFP, 144-Leads, Body 20x20mm, Pitch 0.5mm, IPC High Density)
footprint TQ144_M (Thin QFP, 144-Leads, Body 20x20mm, Pitch 0.5mm, IPC Low Density)
3D model XCV50-TQ144 (144-Pin Thin Quad Flat Pack (TQ144))
signal-integrity model XCV50_TQ144 (Virtex)
part A pins: 3 IO (io), 4 IO (io), 5 IO_VREF (io), 6 IO (io), 7 IO (io), 8 IO (io), 11 IO (io), 12 IO (io), 13 IO_VREF (io), 14 IO (io)
part B pins: 20 IO (io), 21 IO (io), 22 IO_VREF (io), 23 IO (io), 24 IO (io), 27 IO (io), 28 IO (io), 29 IO (io), 30 IO_VREF (io), 31 IO (io), 32 IO_WRITE (io), 33 IO_CS (io)
part C pins: 39 IO_DOUT_BUSY (io), 40 IO_DIN_D0 (io), 41 IO (io), 42 IO_VREF (io), 43 IO (io), 44 IO (io), 45 IO_D1 (io), 47 IO_D2 (io), 48 IO (io), 49 IO (io), 50 IO_VREF (io), 51 IO_D3 (io), 52 IO (io), 53 IO (io)
part D pins: 56 IO (io), 58 IO (io), 59 IO_D4 (io), 60 IO_VREF (io), 61 IO (io), 62 IO (io), 63 IO_D5 (io), 65 IO_D6 (io), 66 IO (io), 67 IO (io), 68 IO_VREF (io), 69 IO (io), 70 IO_D7 (io), 71 IO_INIT (io)
part E pins: 76 IO (io), 77 IO (io), 78 IO (io), 79 IO_VREF (io), 80 IO (io), 81 IO (io), 82 IO (io), 85 IO (io), 86 IO (io), 87 IO_VREF (io), 88 IO (io), 89 IO (io)
part F pins: 95 IO (io), 96 IO_VREF (io), 97 IO (io), 98 IO (io), 101 IO (io), 102 IO (io), 103 IO (io), 104 IO_VREF (io), 105 IO (io), 106 IO (io), 107 IO (io)
part G pins: 113 IO (io), 114 IO (io), 115 IO (io), 116 IO_VREF (io), 117 IO (io), 118 IO (io), 119 IO (io), 121 IO (io), 122 IO (io), 123 IO_VREF (io), 124 IO (io), 125 IO (io)
part H pins: 127 IO (io), 130 IO (io), 131 IO (io), 132 IO (io), 133 IO_VREF (io), 134 IO (io), 135 IO (io), 137 IO (io), 138 IO (io), 139 IO (io), 140 IO_VREF (io), 141 IO (io), 142 IO (io)
part I pins: 16 GCK3 (in), 19 GCK2 (in), 90 GCK0 (in), 93 GCK1 (in)
part J pins: 2 TCK (in), 34 TDI (in), 36 TDO (out), 38 CCLK (io), 72 PROGRAM (in), 74 DONE (io), 108 M2 (in), 110 M0 (in), 112 M1 (in), 143 TMS (in)
part K pins: 1 VCCO (power), 10 VCCINT (power), 15 VCCINT (power), 17 VCCO (power), 25 VCCINT (power), 37 VCCO (power), 55 VCCO (power), 57 VCCINT (power), 73 VCCO (power), 84 VCCINT (power), 92 VCCO (power), 94 VCCINT (power), 99 VCCINT (power), 109 VCCO (power), 126 VCCINT (power), 128 VCCO (power)
part L pins: 9 GND (power), 18 GND (power), 26 GND (power), 35 GND (power), 46 GND (power), 54 GND (power), 64 GND (power), 75 GND (power), 83 GND (power), 91 GND (power), 100 GND (power), 111 GND (power), 120 GND (power), 129 GND (power), 136 GND (power), 144 GND (power)
part A text: BANK 0
part B text: BANK 1
part C text: BANK 2
part D text: BANK 3
part E text: BANK 4
part F text: BANK 5
part G text: BANK 6
part H text: BANK 7

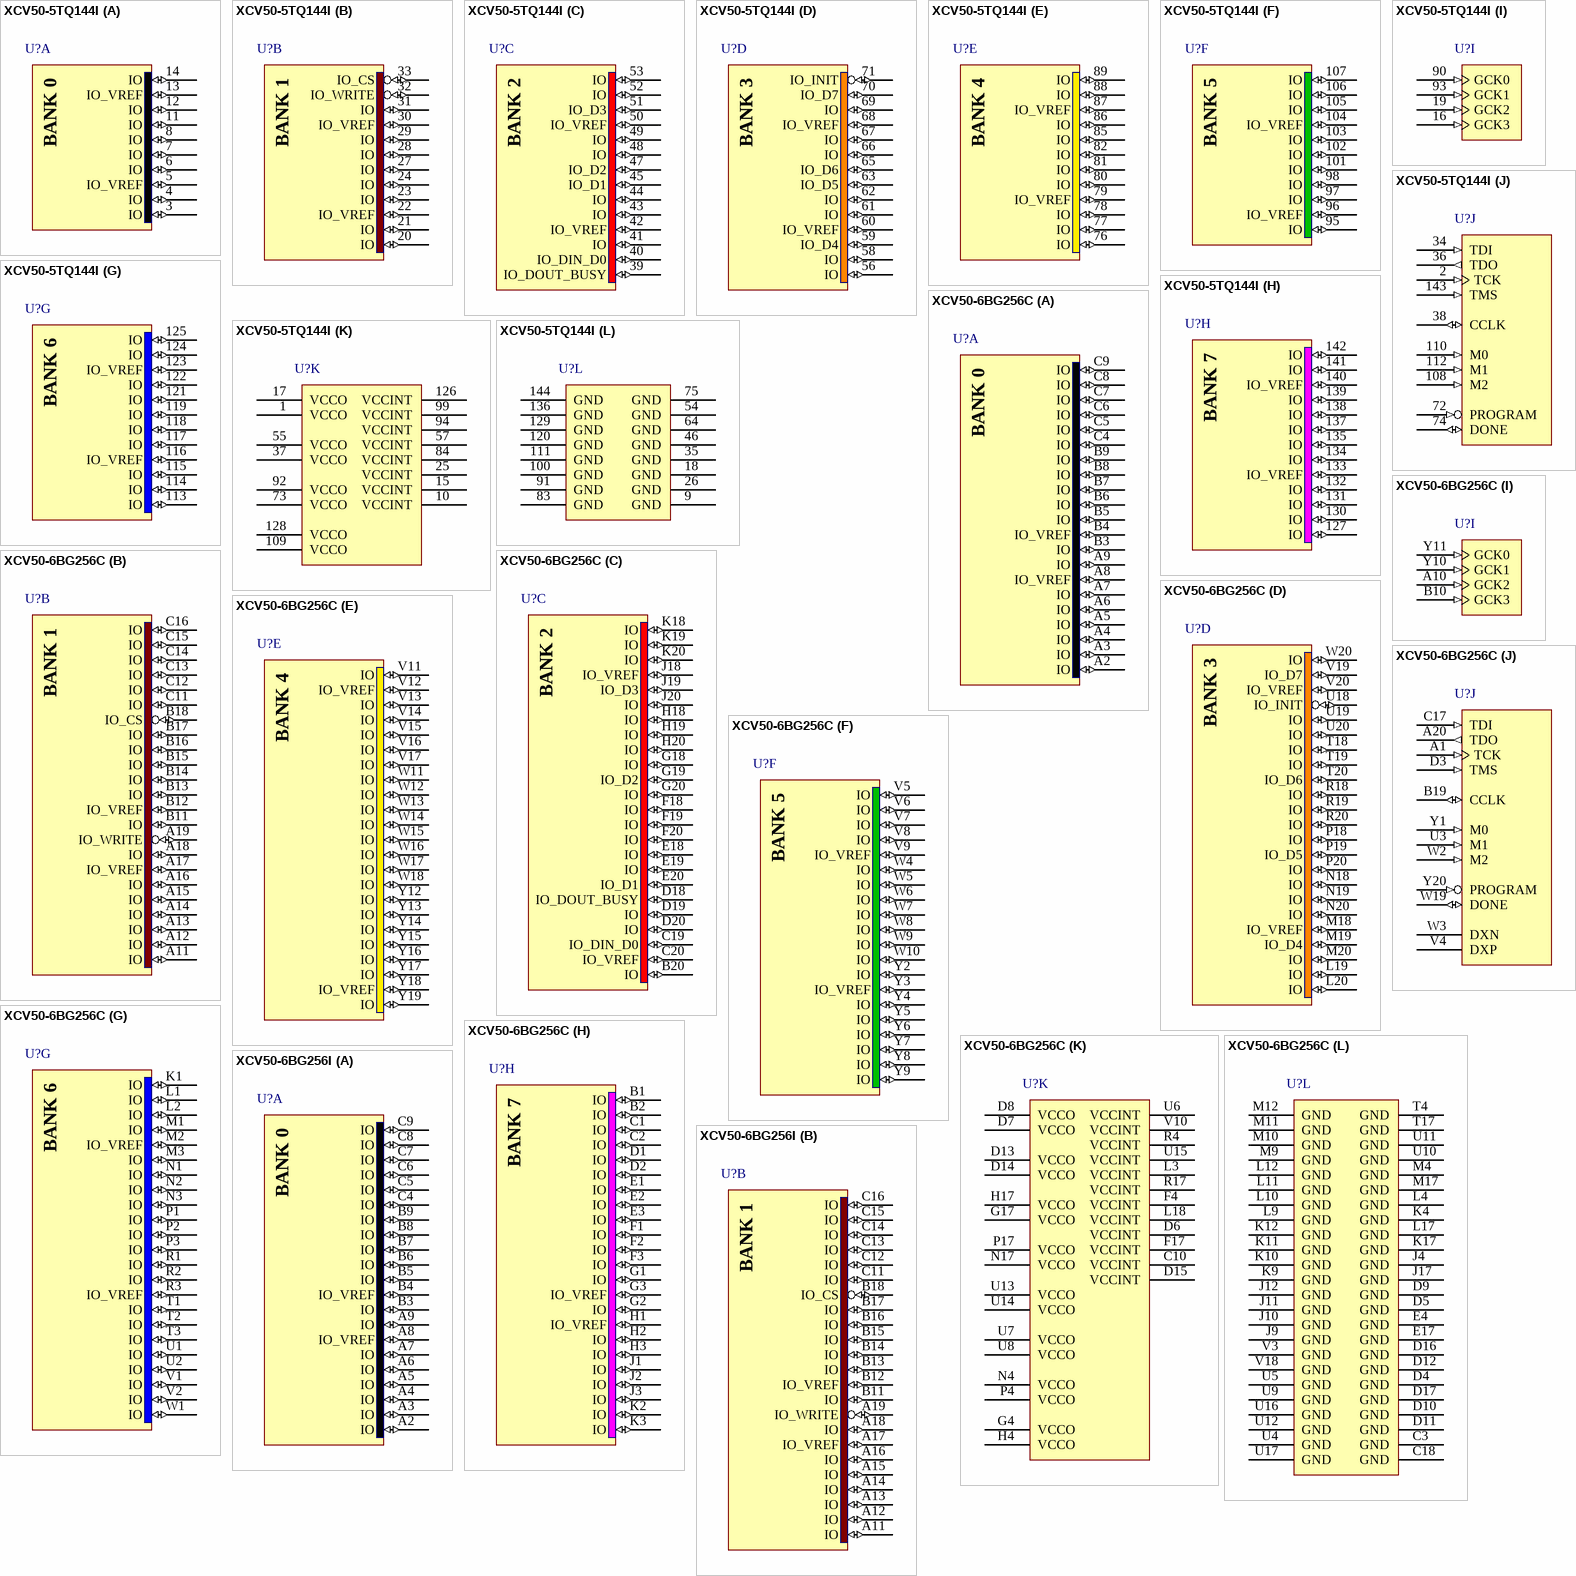
[diagram p10: symbols XCV50-5TQ144I to XCV50-6BG256I]

## XCV50-5TQ144I
designator U?
Virtex 2.5V FPGA, 144-Pin TQFP, Industrial Grade; Published: 19-Sep-2001; LatestRevisionDate: 13-Apr-2006; LatestRevisionNote: IPC-7351 Footprint Added.; DatasheetVersion: Dec-2002; PackageVersion: ver1.2, Jun-2004; PackageReference: TQ144; Publisher: Altium Limited; PackageDescription: 144-Pin Thin Quad Flat Pack (TQ144); Code_JEDEC: MS-026-BFB; ComponentLink1Description: Manufacturer Link; ComponentLink1URL: http://www.xilinx.com/xlnx/xil_prodcat_product.jsp?title=ss_vir; ComponentLink2Description: Datasheet; ComponentLink2URL: http://direct.xilinx.com/bvdocs/publications/ds003.pdf
footprint TQ144_N (Thin QFP, 144-Leads, Body 20x20mm, Pitch 0.5mm, IPC Medium Density)
footprint TQ144_L (Thin QFP, 144-Leads, Body 20x20mm, Pitch 0.5mm, IPC High Density)
footprint TQ144_M (Thin QFP, 144-Leads, Body 20x20mm, Pitch 0.5mm, IPC Low Density)
3D model XCV50-TQ144 (144-Pin Thin Quad Flat Pack (TQ144))
signal-integrity model XCV50_TQ144 (Virtex)
part A pins: 3 IO (io), 4 IO (io), 5 IO_VREF (io), 6 IO (io), 7 IO (io), 8 IO (io), 11 IO (io), 12 IO (io), 13 IO_VREF (io), 14 IO (io)
part B pins: 20 IO (io), 21 IO (io), 22 IO_VREF (io), 23 IO (io), 24 IO (io), 27 IO (io), 28 IO (io), 29 IO (io), 30 IO_VREF (io), 31 IO (io), 32 IO_WRITE (io), 33 IO_CS (io)
part C pins: 39 IO_DOUT_BUSY (io), 40 IO_DIN_D0 (io), 41 IO (io), 42 IO_VREF (io), 43 IO (io), 44 IO (io), 45 IO_D1 (io), 47 IO_D2 (io), 48 IO (io), 49 IO (io), 50 IO_VREF (io), 51 IO_D3 (io), 52 IO (io), 53 IO (io)
part D pins: 56 IO (io), 58 IO (io), 59 IO_D4 (io), 60 IO_VREF (io), 61 IO (io), 62 IO (io), 63 IO_D5 (io), 65 IO_D6 (io), 66 IO (io), 67 IO (io), 68 IO_VREF (io), 69 IO (io), 70 IO_D7 (io), 71 IO_INIT (io)
part E pins: 76 IO (io), 77 IO (io), 78 IO (io), 79 IO_VREF (io), 80 IO (io), 81 IO (io), 82 IO (io), 85 IO (io), 86 IO (io), 87 IO_VREF (io), 88 IO (io), 89 IO (io)
part F pins: 95 IO (io), 96 IO_VREF (io), 97 IO (io), 98 IO (io), 101 IO (io), 102 IO (io), 103 IO (io), 104 IO_VREF (io), 105 IO (io), 106 IO (io), 107 IO (io)
part G pins: 113 IO (io), 114 IO (io), 115 IO (io), 116 IO_VREF (io), 117 IO (io), 118 IO (io), 119 IO (io), 121 IO (io), 122 IO (io), 123 IO_VREF (io), 124 IO (io), 125 IO (io)
part H pins: 127 IO (io), 130 IO (io), 131 IO (io), 132 IO (io), 133 IO_VREF (io), 134 IO (io), 135 IO (io), 137 IO (io), 138 IO (io), 139 IO (io), 140 IO_VREF (io), 141 IO (io), 142 IO (io)
part I pins: 16 GCK3 (in), 19 GCK2 (in), 90 GCK0 (in), 93 GCK1 (in)
part J pins: 2 TCK (in), 34 TDI (in), 36 TDO (out), 38 CCLK (io), 72 PROGRAM (in), 74 DONE (io), 108 M2 (in), 110 M0 (in), 112 M1 (in), 143 TMS (in)
part K pins: 1 VCCO (power), 10 VCCINT (power), 15 VCCINT (power), 17 VCCO (power), 25 VCCINT (power), 37 VCCO (power), 55 VCCO (power), 57 VCCINT (power), 73 VCCO (power), 84 VCCINT (power), 92 VCCO (power), 94 VCCINT (power), 99 VCCINT (power), 109 VCCO (power), 126 VCCINT (power), 128 VCCO (power)
part L pins: 9 GND (power), 18 GND (power), 26 GND (power), 35 GND (power), 46 GND (power), 54 GND (power), 64 GND (power), 75 GND (power), 83 GND (power), 91 GND (power), 100 GND (power), 111 GND (power), 120 GND (power), 129 GND (power), 136 GND (power), 144 GND (power)
part A text: BANK 0
part B text: BANK 1
part C text: BANK 2
part D text: BANK 3
part E text: BANK 4
part F text: BANK 5
part G text: BANK 6
part H text: BANK 7

## XCV50-6BG256C
designator U?
Virtex 2.5V FPGA, 256-Ball Thermally Enhanced BGA, Commercial Grade; Note: Solder pads are defined by the copper, i.e. non-soldermask defined (NSMD); 16 extra balls (grounded) at package center; Published: 19-Sep-2001; LatestRevisionDate: 13-Apr-2006; LatestRevisionNote: IPC-7351 Footprint Added.; DatasheetVersion: Dec-2002; PackageVersion: ver1.1, Apr-2001; PackageReference: BG256TE; Publisher: Altium Limited; PackageDescription: 256-Ball Plastic Ball Grid Array (BG256) - Thermally Enhanced; Code_JEDEC: MS-034-BAL-2; ComponentLink1Description: Manufacturer Link; ComponentLink1URL: http://www.xilinx.com/xlnx/xil_prodcat_product.jsp?title=ss_vir; ComponentLink2Description: Datasheet; ComponentLink2URL: http://direct.xilinx.com/bvdocs/publications/ds003.pdf
footprint BG256TE (BGA, 272-Leads, Body 27x27mm, Pitch 1.27mm)
3D model XCV50-BG256TE (256-Ball Plastic Ball Grid Array (BG256) - Thermally Enhanced)
signal-integrity model XCV50_BG256 (Virtex)
part A pins: A2 IO (io), A3 IO (io), A4 IO (io), A5 IO (io), A6 IO (io), A7 IO (io), A8 IO_VREF (io), A9 IO (io), B3 IO (io), B4 IO_VREF (io), B5 IO (io), B6 IO (io), B7 IO (io), B8 IO (io), B9 IO (io), C4 IO (io), C5 IO (io), C6 IO (io), C7 IO (io), C8 IO (io), C9 IO (io)
part B pins: A11 IO (io), A12 IO (io), A13 IO (io), A14 IO (io), A15 IO (io), A16 IO (io), A17 IO_VREF (io), A18 IO (io), A19 IO_WRITE (io), B11 IO (io), B12 IO_VREF (io), B13 IO (io), B14 IO (io), B15 IO (io), B16 IO (io), B17 IO (io), B18 IO_CS (io), C11 IO (io), C12 IO (io), C13 IO (io), C14 IO (io), C15 IO (io), C16 IO (io)
part C pins: B20 IO (io), C19 IO_DIN_D0 (io), C20 IO_VREF (io), D18 IO_DOUT_BUSY (io), D19 IO (io), D20 IO (io), E18 IO (io), E19 IO (io), E20 IO_D1 (io), F18 IO (io), F19 IO (io), F20 IO (io), G18 IO (io), G19 IO_D2 (io), G20 IO (io), H18 IO (io), H19 IO (io), H20 IO (io), J18 IO_VREF (io), J19 IO_D3 (io), J20 IO (io), K18 IO (io), K19 IO (io), K20 IO (io)
part D pins: L19 IO (io), L20 IO (io), M18 IO_VREF (io), M19 IO_D4 (io), M20 IO (io), N18 IO (io), N19 IO (io), N20 IO (io), P18 IO (io), P19 IO_D5 (io), P20 IO (io), R18 IO (io), R19 IO (io), R20 IO (io), T18 IO (io), T19 IO (io), T20 IO_D6 (io), U18 IO_INIT (io), U19 IO (io), U20 IO (io), V19 IO_D7 (io), V20 IO_VREF (io), W20 IO (io)
part E pins: V11 IO (io), V12 IO_VREF (io), V13 IO (io), V14 IO (io), V15 IO (io), V16 IO (io), V17 IO (io), W11 IO (io), W12 IO (io), W13 IO (io), W14 IO (io), W15 IO (io), W16 IO (io), W17 IO (io), W18 IO (io), Y12 IO (io), Y13 IO (io), Y14 IO (io), Y15 IO (io), Y16 IO (io), Y17 IO (io), Y18 IO_VREF (io), Y19 IO (io)
part F pins: V5 IO (io), V6 IO (io), V7 IO (io), V8 IO (io), V9 IO_VREF (io), W4 IO (io), W5 IO (io), W6 IO (io), W7 IO (io), W8 IO (io), W9 IO (io), W10 IO (io), Y2 IO (io), Y3 IO_VREF (io), Y4 IO (io), Y5 IO (io), Y6 IO (io), Y7 IO (io), Y8 IO (io), Y9 IO (io)
part G pins: K1 IO (io), L1 IO (io), L2 IO (io), M1 IO (io), M2 IO_VREF (io), M3 IO (io), N1 IO (io), N2 IO (io), N3 IO (io), P1 IO (io), P2 IO (io), P3 IO (io), R1 IO (io), R2 IO (io), R3 IO_VREF (io), T1 IO (io), T2 IO (io), T3 IO (io), U1 IO (io), U2 IO (io), V1 IO (io), V2 IO (io), W1 IO (io)
part H pins: B1 IO (io), B2 IO (io), C1 IO (io), C2 IO (io), D1 IO (io), D2 IO (io), E1 IO (io), E2 IO (io), E3 IO (io), F1 IO (io), F2 IO (io), F3 IO (io), G1 IO (io), G2 IO (io), G3 IO_VREF (io), H1 IO_VREF (io), H2 IO (io), H3 IO (io), J1 IO (io), J2 IO (io), J3 IO (io), K2 IO (io), K3 IO (io)
part I pins: A10 GCK2 (in), B10 GCK3 (in), Y10 GCK1 (in), Y11 GCK0 (in)
part J pins: A1 TCK (in), A20 TDO (out), B19 CCLK (io), C17 TDI (in), D3 TMS (in), U3 M1 (in), V4 DXP, W2 M2 (in), W3 DXN, W19 DONE (io), Y1 M0 (in), Y20 PROGRAM (in)
part K pins: C10 VCCINT (power), D6 VCCINT (power), D7 VCCO (power), D8 VCCO (power), D13 VCCO (power), D14 VCCO (power), D15 VCCINT (power), F4 VCCINT (power), F17 VCCINT (power), G4 VCCO (power), G17 VCCO (power), H4 VCCO (power), H17 VCCO (power), L3 VCCINT (power), L18 VCCINT (power), N4 VCCO (power), N17 VCCO (power), P4 VCCO (power), P17 VCCO (power), R4 VCCINT (power), R17 VCCINT (power), U6 VCCINT (power), U7 VCCO (power), U8 VCCO (power), U13 VCCO (power), U14 VCCO (power), U15 VCCINT (power), V10 VCCINT (power)
part L pins: C3 GND (power), C18 GND (power), D4 GND (power), D5 GND (power), D9 GND (power), D10 GND (power), D11 GND (power), D12 GND (power), D16 GND (power), D17 GND (power), E4 GND (power), E17 GND (power), J4 GND (power), J9 GND (power), J10 GND (power), J11 GND (power), J12 GND (power), J17 GND (power), K4 GND (power), K9 GND (power), K10 GND (power), K11 GND (power), K12 GND (power), K17 GND (power), L4 GND (power), L9 GND (power), L10 GND (power), L11 GND (power), L12 GND (power), L17 GND (power), M4 GND (power), M9 GND (power), M10 GND (power), M11 GND (power), M12 GND (power), M17 GND (power), T4 GND (power), T17 GND (power), U4 GND (power), U5 GND (power), U9 GND (power), U10 GND (power), U11 GND (power), U12 GND (power), U16 GND (power), U17 GND (power), V3 GND (power), V18 GND (power)
part A text: BANK 0
part B text: BANK 1
part C text: BANK 2
part D text: BANK 3
part E text: BANK 4
part F text: BANK 5
part G text: BANK 6
part H text: BANK 7

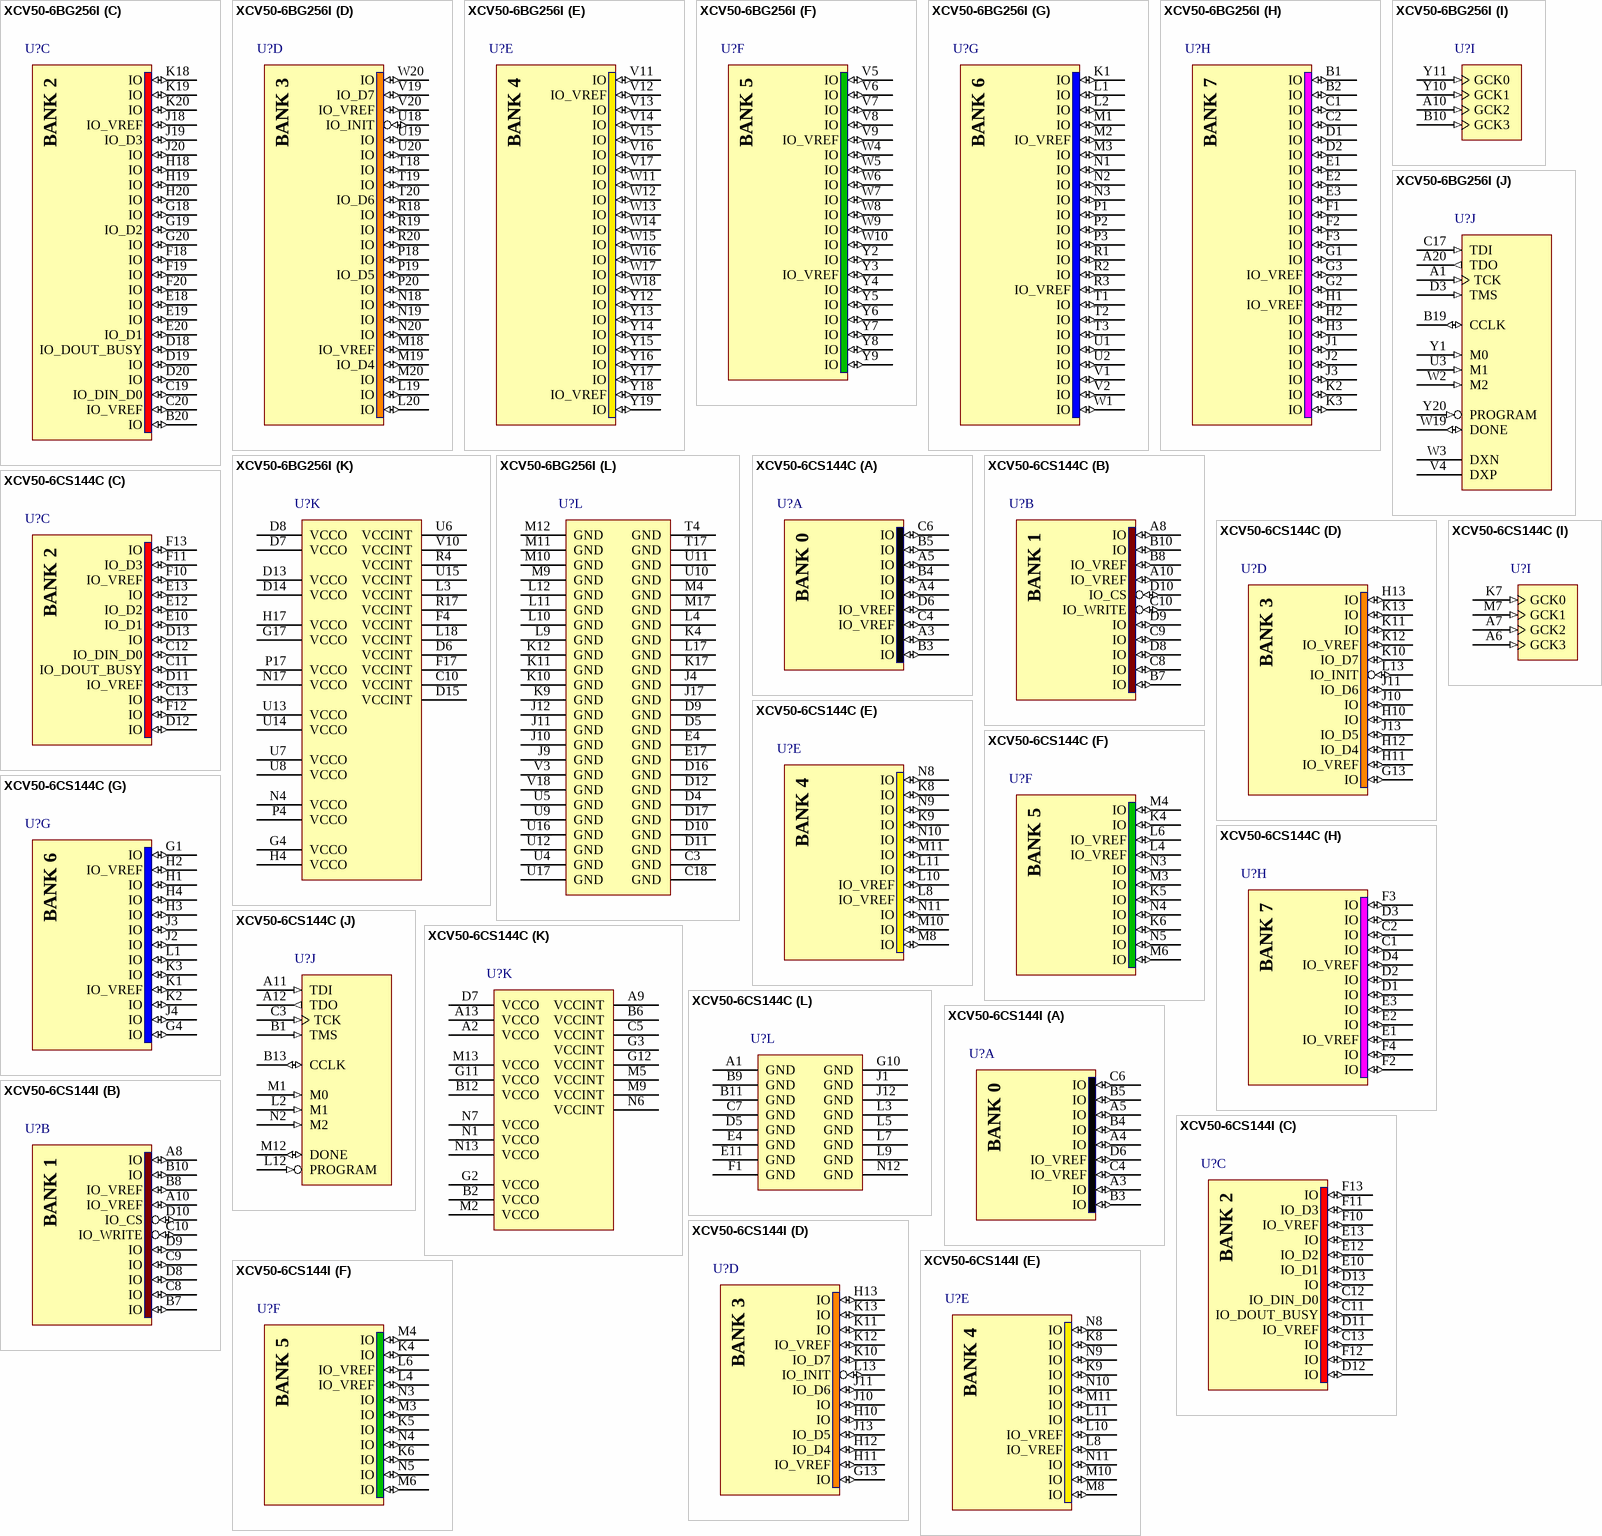
[diagram p11: symbols XCV50-6BG256I to XCV50-6CS144I]

## XCV50-6BG256I
designator U?
Virtex 2.5V FPGA, 256-Ball Thermally Enhanced BGA, Industrial Grade; Note: Solder pads are defined by the copper, i.e. non-soldermask defined (NSMD); 16 extra balls (grounded) at package center; Published: 19-Sep-2001; LatestRevisionDate: 13-Apr-2006; LatestRevisionNote: IPC-7351 Footprint Added.; DatasheetVersion: Dec-2002; PackageVersion: ver1.1, Apr-2001; PackageReference: BG256TE; Publisher: Altium Limited; PackageDescription: 256-Ball Plastic Ball Grid Array (BG256) - Thermally Enhanced; Code_JEDEC: MS-034-BAL-2; ComponentLink1Description: Manufacturer Link; ComponentLink1URL: http://www.xilinx.com/xlnx/xil_prodcat_product.jsp?title=ss_vir; ComponentLink2Description: Datasheet; ComponentLink2URL: http://direct.xilinx.com/bvdocs/publications/ds003.pdf
footprint BG256TE (BGA, 272-Leads, Body 27x27mm, Pitch 1.27mm)
3D model XCV50-BG256TE (256-Ball Plastic Ball Grid Array (BG256) - Thermally Enhanced)
signal-integrity model XCV50_BG256 (Virtex)
part A pins: A2 IO (io), A3 IO (io), A4 IO (io), A5 IO (io), A6 IO (io), A7 IO (io), A8 IO_VREF (io), A9 IO (io), B3 IO (io), B4 IO_VREF (io), B5 IO (io), B6 IO (io), B7 IO (io), B8 IO (io), B9 IO (io), C4 IO (io), C5 IO (io), C6 IO (io), C7 IO (io), C8 IO (io), C9 IO (io)
part B pins: A11 IO (io), A12 IO (io), A13 IO (io), A14 IO (io), A15 IO (io), A16 IO (io), A17 IO_VREF (io), A18 IO (io), A19 IO_WRITE (io), B11 IO (io), B12 IO_VREF (io), B13 IO (io), B14 IO (io), B15 IO (io), B16 IO (io), B17 IO (io), B18 IO_CS (io), C11 IO (io), C12 IO (io), C13 IO (io), C14 IO (io), C15 IO (io), C16 IO (io)
part C pins: B20 IO (io), C19 IO_DIN_D0 (io), C20 IO_VREF (io), D18 IO_DOUT_BUSY (io), D19 IO (io), D20 IO (io), E18 IO (io), E19 IO (io), E20 IO_D1 (io), F18 IO (io), F19 IO (io), F20 IO (io), G18 IO (io), G19 IO_D2 (io), G20 IO (io), H18 IO (io), H19 IO (io), H20 IO (io), J18 IO_VREF (io), J19 IO_D3 (io), J20 IO (io), K18 IO (io), K19 IO (io), K20 IO (io)
part D pins: L19 IO (io), L20 IO (io), M18 IO_VREF (io), M19 IO_D4 (io), M20 IO (io), N18 IO (io), N19 IO (io), N20 IO (io), P18 IO (io), P19 IO_D5 (io), P20 IO (io), R18 IO (io), R19 IO (io), R20 IO (io), T18 IO (io), T19 IO (io), T20 IO_D6 (io), U18 IO_INIT (io), U19 IO (io), U20 IO (io), V19 IO_D7 (io), V20 IO_VREF (io), W20 IO (io)
part E pins: V11 IO (io), V12 IO_VREF (io), V13 IO (io), V14 IO (io), V15 IO (io), V16 IO (io), V17 IO (io), W11 IO (io), W12 IO (io), W13 IO (io), W14 IO (io), W15 IO (io), W16 IO (io), W17 IO (io), W18 IO (io), Y12 IO (io), Y13 IO (io), Y14 IO (io), Y15 IO (io), Y16 IO (io), Y17 IO (io), Y18 IO_VREF (io), Y19 IO (io)
part F pins: V5 IO (io), V6 IO (io), V7 IO (io), V8 IO (io), V9 IO_VREF (io), W4 IO (io), W5 IO (io), W6 IO (io), W7 IO (io), W8 IO (io), W9 IO (io), W10 IO (io), Y2 IO (io), Y3 IO_VREF (io), Y4 IO (io), Y5 IO (io), Y6 IO (io), Y7 IO (io), Y8 IO (io), Y9 IO (io)
part G pins: K1 IO (io), L1 IO (io), L2 IO (io), M1 IO (io), M2 IO_VREF (io), M3 IO (io), N1 IO (io), N2 IO (io), N3 IO (io), P1 IO (io), P2 IO (io), P3 IO (io), R1 IO (io), R2 IO (io), R3 IO_VREF (io), T1 IO (io), T2 IO (io), T3 IO (io), U1 IO (io), U2 IO (io), V1 IO (io), V2 IO (io), W1 IO (io)
part H pins: B1 IO (io), B2 IO (io), C1 IO (io), C2 IO (io), D1 IO (io), D2 IO (io), E1 IO (io), E2 IO (io), E3 IO (io), F1 IO (io), F2 IO (io), F3 IO (io), G1 IO (io), G2 IO (io), G3 IO_VREF (io), H1 IO_VREF (io), H2 IO (io), H3 IO (io), J1 IO (io), J2 IO (io), J3 IO (io), K2 IO (io), K3 IO (io)
part I pins: A10 GCK2 (in), B10 GCK3 (in), Y10 GCK1 (in), Y11 GCK0 (in)
part J pins: A1 TCK (in), A20 TDO (out), B19 CCLK (io), C17 TDI (in), D3 TMS (in), U3 M1 (in), V4 DXP, W2 M2 (in), W3 DXN, W19 DONE (io), Y1 M0 (in), Y20 PROGRAM (in)
part K pins: C10 VCCINT (power), D6 VCCINT (power), D7 VCCO (power), D8 VCCO (power), D13 VCCO (power), D14 VCCO (power), D15 VCCINT (power), F4 VCCINT (power), F17 VCCINT (power), G4 VCCO (power), G17 VCCO (power), H4 VCCO (power), H17 VCCO (power), L3 VCCINT (power), L18 VCCINT (power), N4 VCCO (power), N17 VCCO (power), P4 VCCO (power), P17 VCCO (power), R4 VCCINT (power), R17 VCCINT (power), U6 VCCINT (power), U7 VCCO (power), U8 VCCO (power), U13 VCCO (power), U14 VCCO (power), U15 VCCINT (power), V10 VCCINT (power)
part L pins: C3 GND (power), C18 GND (power), D4 GND (power), D5 GND (power), D9 GND (power), D10 GND (power), D11 GND (power), D12 GND (power), D16 GND (power), D17 GND (power), E4 GND (power), E17 GND (power), J4 GND (power), J9 GND (power), J10 GND (power), J11 GND (power), J12 GND (power), J17 GND (power), K4 GND (power), K9 GND (power), K10 GND (power), K11 GND (power), K12 GND (power), K17 GND (power), L4 GND (power), L9 GND (power), L10 GND (power), L11 GND (power), L12 GND (power), L17 GND (power), M4 GND (power), M9 GND (power), M10 GND (power), M11 GND (power), M12 GND (power), M17 GND (power), T4 GND (power), T17 GND (power), U4 GND (power), U5 GND (power), U9 GND (power), U10 GND (power), U11 GND (power), U12 GND (power), U16 GND (power), U17 GND (power), V3 GND (power), V18 GND (power)
part A text: BANK 0
part B text: BANK 1
part C text: BANK 2
part D text: BANK 3
part E text: BANK 4
part F text: BANK 5
part G text: BANK 6
part H text: BANK 7

## XCV50-6CS144C
designator U?
Virtex 2.5V FPGA, 144-Ball CSBGA, Commercial Grade; Note: Solder pads are defined by the copper, i.e. non-soldermask defined (NSMD); Published: 19-Sep-2001; LatestRevisionDate: 13-Apr-2006; LatestRevisionNote: IPC-7351 Footprint Added.; DatasheetVersion: Dec-2002; PackageVersion: ver1.2.2, Nov-2005; PackageReference: CS144; Publisher: Altium Limited; PackageDescription: 144-Ball Chip Scale Ball Grid Array (CS144); Code_JEDEC: MO-216-BAG-2 (Depopulated); ComponentLink1Description: Manufacturer Link; ComponentLink1URL: http://www.xilinx.com/xlnx/xil_prodcat_product.jsp?title=ss_vir; ComponentLink2Description: Datasheet; ComponentLink2URL: http://direct.xilinx.com/bvdocs/publications/ds003.pdf
footprint CS144 (BGA, 144-Leads, Body 12x12mm, Pitch 0.8mm)
3D model XCV50-CS144 (144-Ball Chip Scale Ball Grid Array (CS144))
signal-integrity model XCV50_CS144 (Virtex)
part A pins: A3 IO (io), A4 IO (io), A5 IO (io), B3 IO (io), B4 IO (io), B5 IO (io), C4 IO_VREF (io), C6 IO (io), D6 IO_VREF (io)
part B pins: A8 IO (io), A10 IO_VREF (io), B7 IO (io), B8 IO_VREF (io), B10 IO (io), C8 IO (io), C9 IO (io), C10 IO_WRITE (io), D8 IO (io), D9 IO (io), D10 IO_CS (io)
part C pins: C11 IO_DOUT_BUSY (io), C12 IO_DIN_D0 (io), C13 IO (io), D11 IO_VREF (io), D12 IO (io), D13 IO (io), E10 IO_D1 (io), E12 IO_D2 (io), E13 IO (io), F10 IO_VREF (io), F11 IO_D3 (io), F12 IO (io), F13 IO (io)
part D pins: G13 IO (io), H10 IO (io), H11 IO_VREF (io), H12 IO_D4 (io), H13 IO (io), J10 IO (io), J11 IO_D6 (io), J13 IO_D5 (io), K10 IO_D7 (io), K11 IO (io), K12 IO_VREF (io), K13 IO (io), L13 IO_INIT (io)
part E pins: K8 IO (io), K9 IO (io), L8 IO_VREF (io), L10 IO_VREF (io), L11 IO (io), M8 IO (io), M10 IO (io), M11 IO (io), N8 IO (io), N9 IO (io), N10 IO (io), N11 IO (io)
part F pins: K4 IO (io), K5 IO (io), K6 IO (io), L4 IO_VREF (io), L6 IO_VREF (io), M3 IO (io), M4 IO (io), M6 IO (io), N3 IO (io), N4 IO (io), N5 IO (io)
part G pins: G1 IO (io), G4 IO (io), H1 IO (io), H2 IO_VREF (io), H3 IO (io), H4 IO (io), J2 IO (io), J3 IO (io), J4 IO (io), K1 IO_VREF (io), K2 IO (io), K3 IO (io), L1 IO (io)
part H pins: C1 IO (io), C2 IO (io), D1 IO (io), D2 IO (io), D3 IO (io), D4 IO_VREF (io), E1 IO_VREF (io), E2 IO (io), E3 IO (io), F2 IO (io), F3 IO (io), F4 IO (io)
part I pins: A6 GCK3 (in), A7 GCK2 (in), K7 GCK0 (in), M7 GCK1 (in)
part J pins: A11 TDI (in), A12 TDO (out), B1 TMS (in), B13 CCLK (io), C3 TCK (in), L2 M1 (in), L12 PROGRAM (in), M1 M0 (in), M12 DONE (io), N2 M2 (in)
part K pins: A2 VCCO (power), A9 VCCINT (power), A13 VCCO (power), B2 VCCO (power), B6 VCCINT (power), B12 VCCO (power), C5 VCCINT (power), D7 VCCO (power), G2 VCCO (power), G3 VCCINT (power), G11 VCCO (power), G12 VCCINT (power), M2 VCCO (power), M5 VCCINT (power), M9 VCCINT (power), M13 VCCO (power), N1 VCCO (power), N6 VCCINT (power), N7 VCCO (power), N13 VCCO (power)
part L pins: A1 GND (power), B9 GND (power), B11 GND (power), C7 GND (power), D5 GND (power), E4 GND (power), E11 GND (power), F1 GND (power), G10 GND (power), J1 GND (power), J12 GND (power), L3 GND (power), L5 GND (power), L7 GND (power), L9 GND (power), N12 GND (power)
part A text: BANK 0
part B text: BANK 1
part C text: BANK 2
part D text: BANK 3
part E text: BANK 4
part F text: BANK 5
part G text: BANK 6
part H text: BANK 7

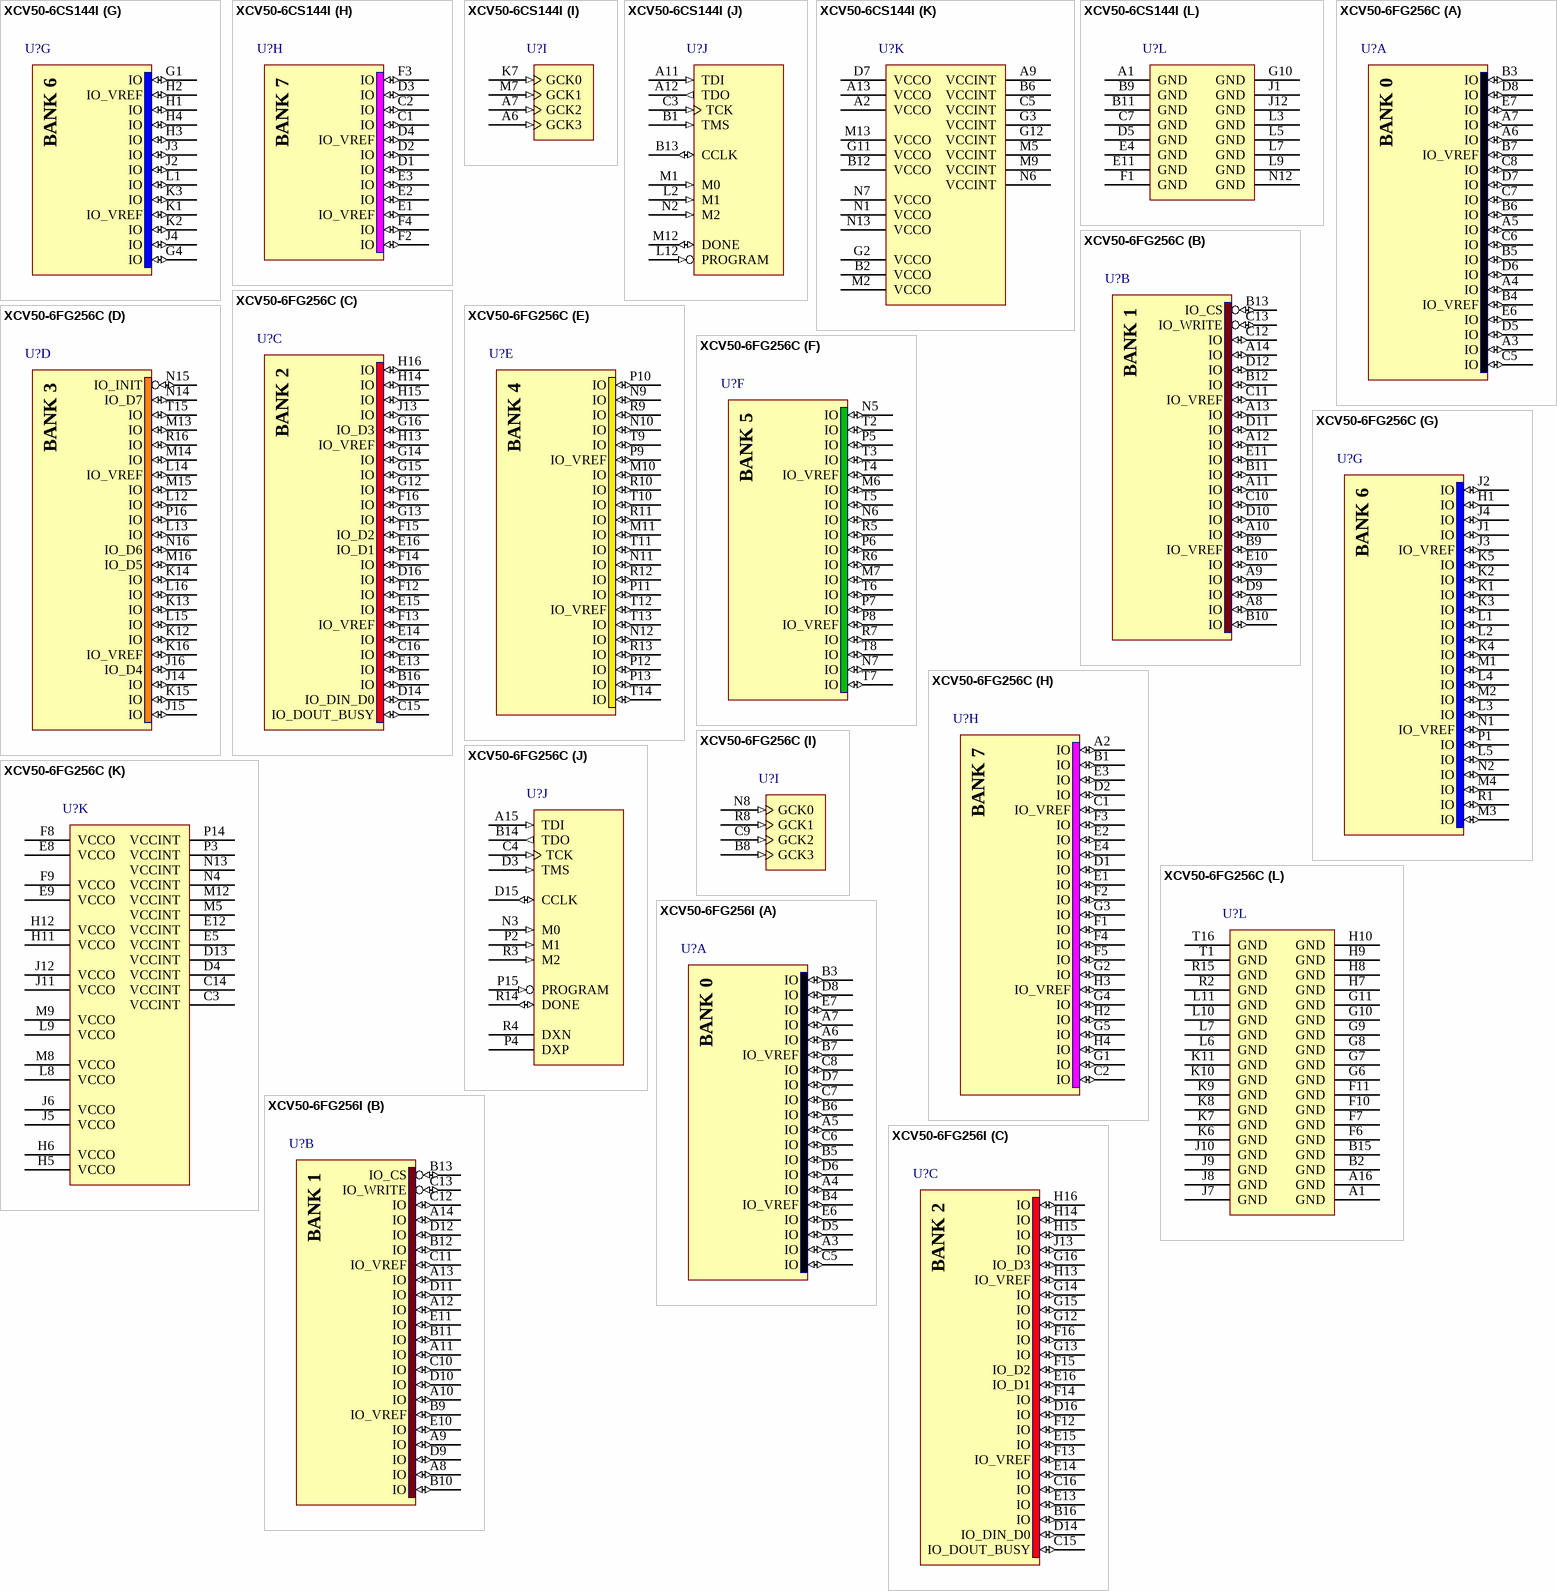
[diagram p12: symbols XCV50-6CS144I to XCV50-6FG256I]